# Altium schematic symbol library Main.SchLib: 196 symbols (part 1 of 4)
Pins are listed as number, name and electrical type; pins without a type are passive.

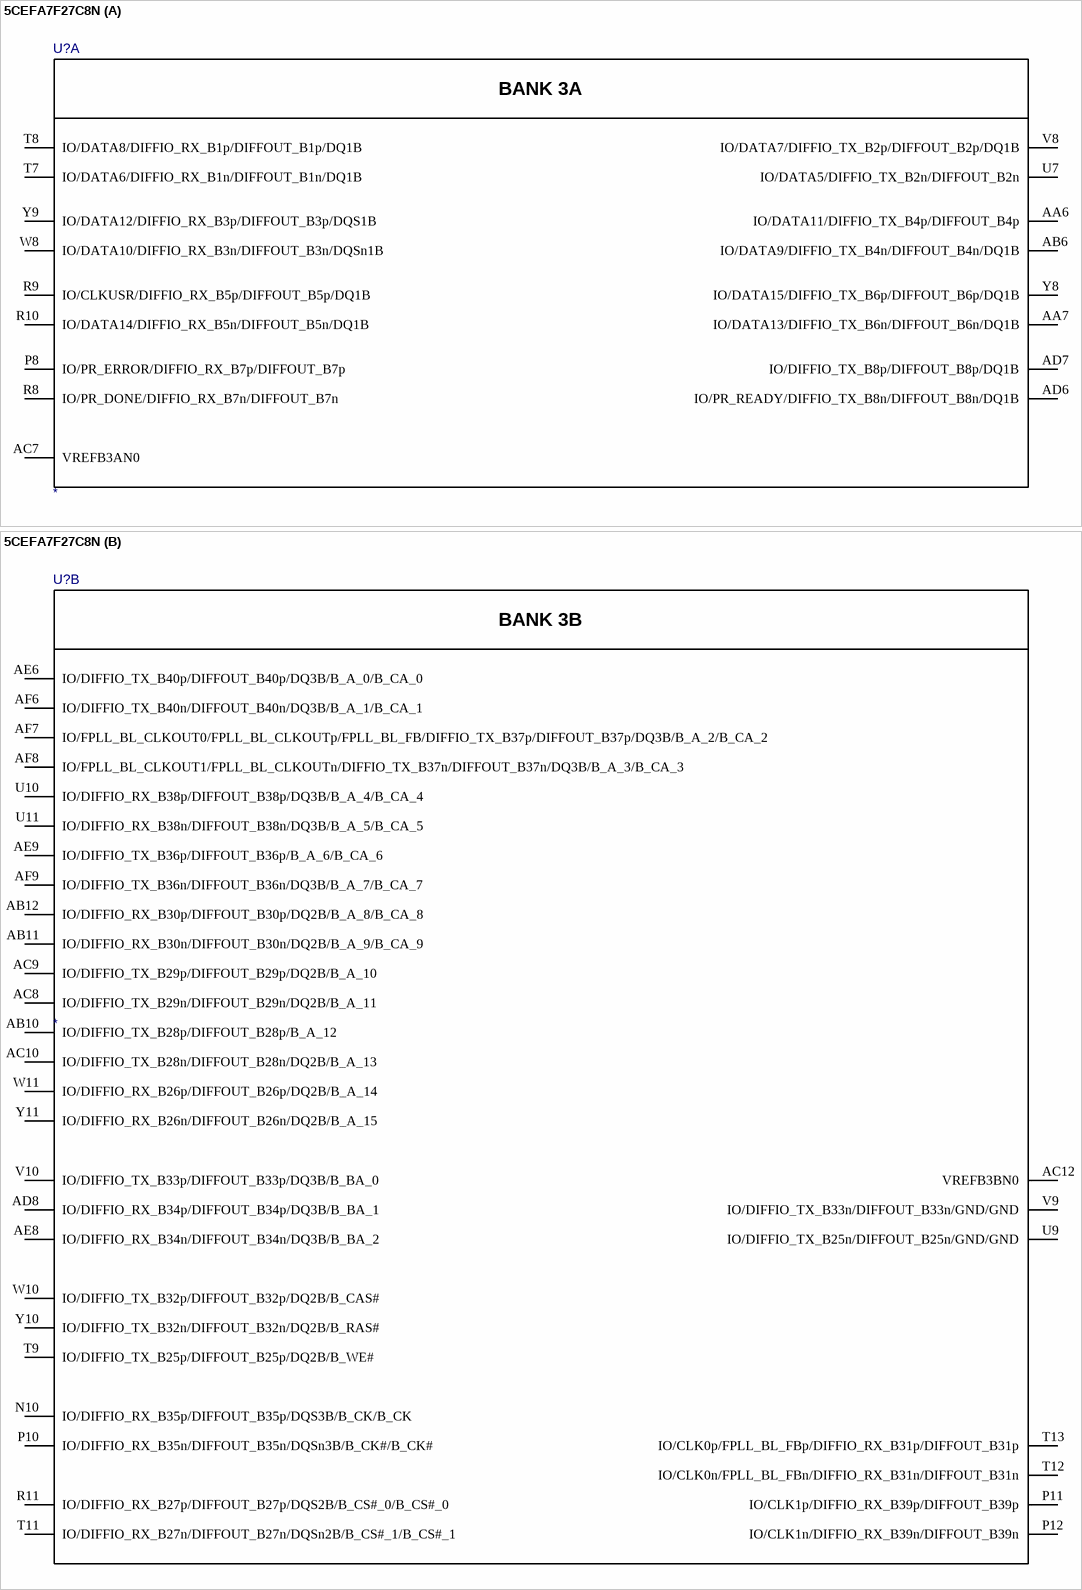
[diagram p0: symbol 5CEFA7F27C8N]

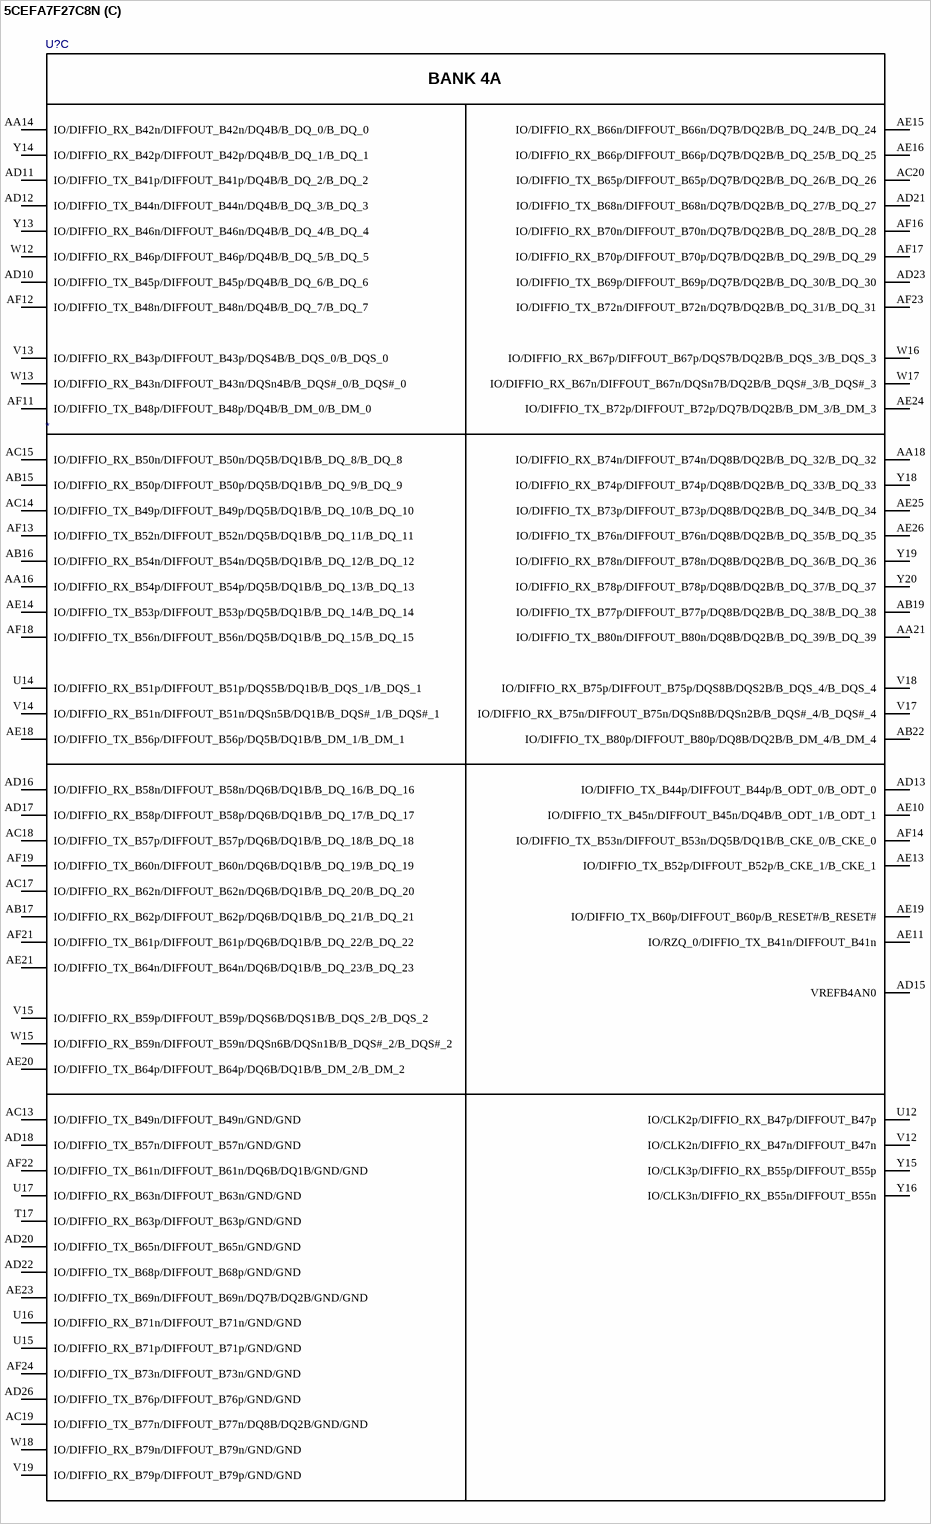
[diagram p1: symbol 5CEFA7F27C8N]

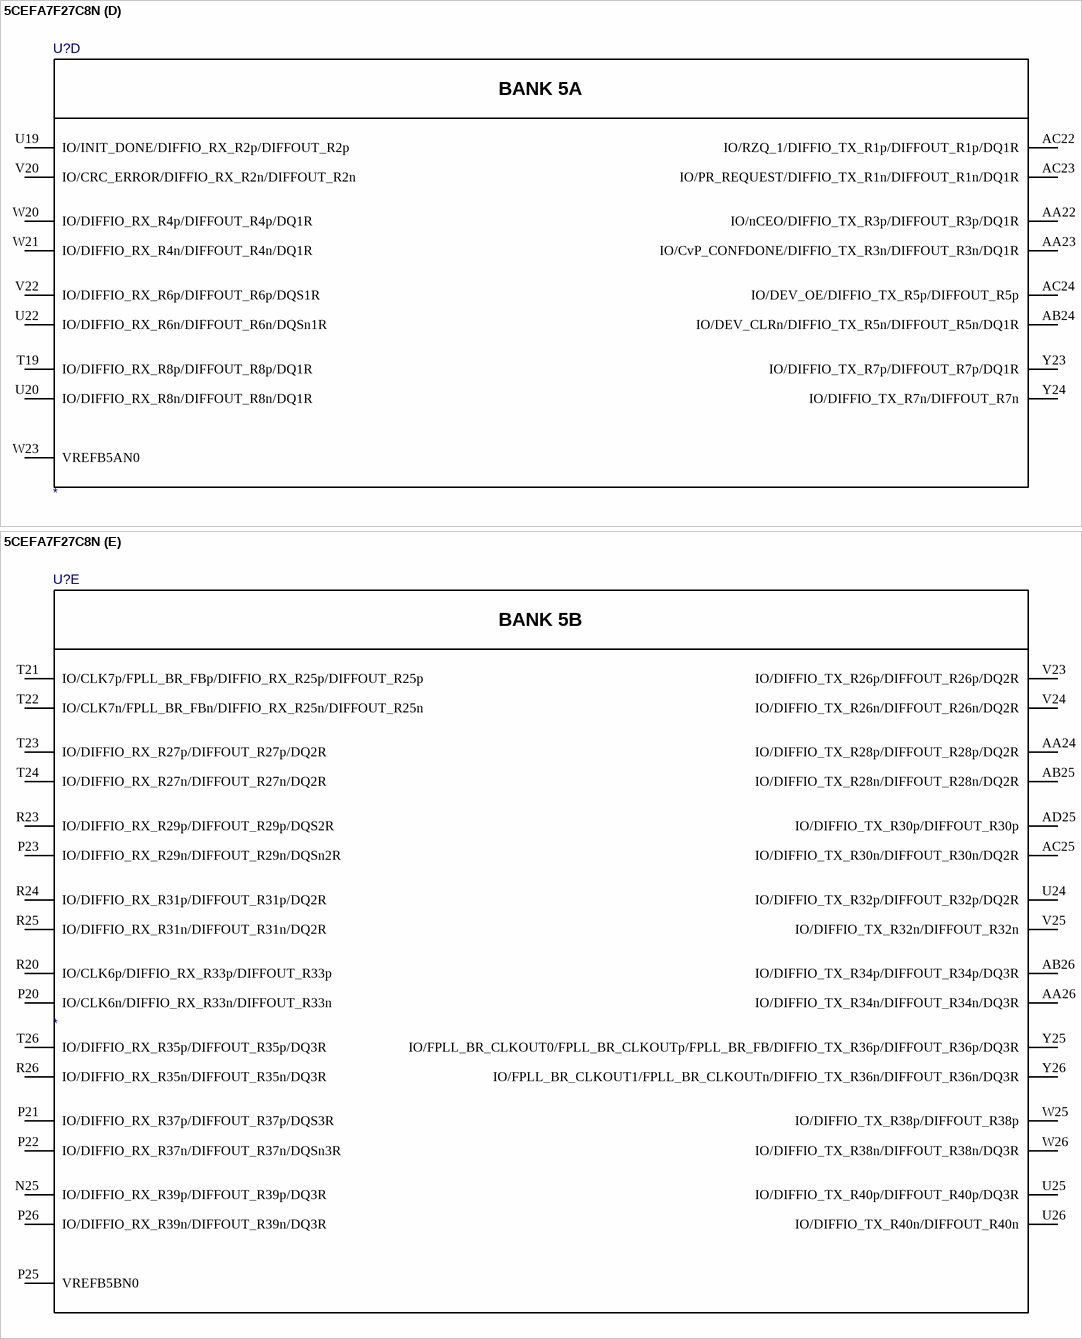
[diagram p2: symbol 5CEFA7F27C8N]

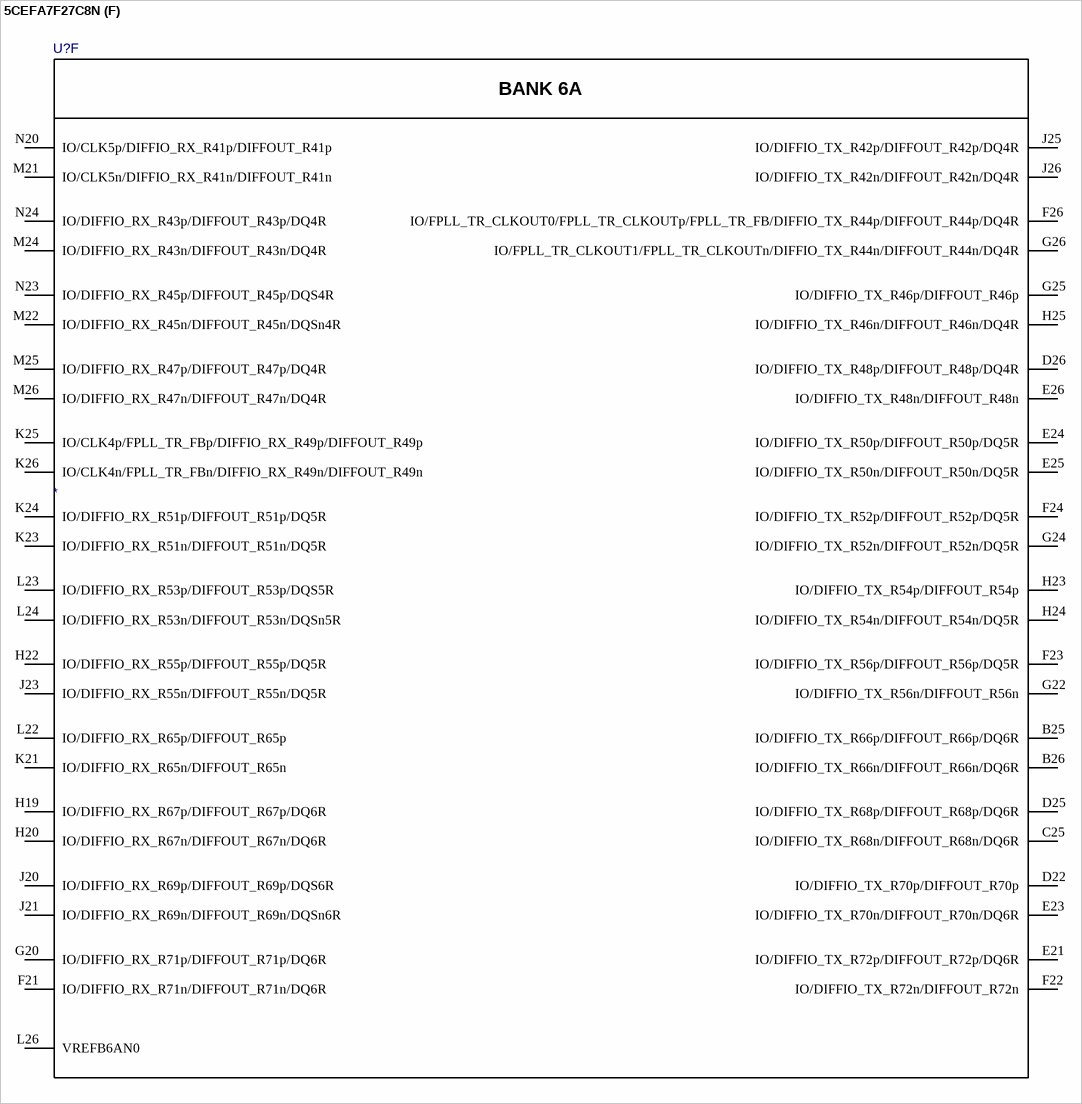
[diagram p3: symbol 5CEFA7F27C8N]

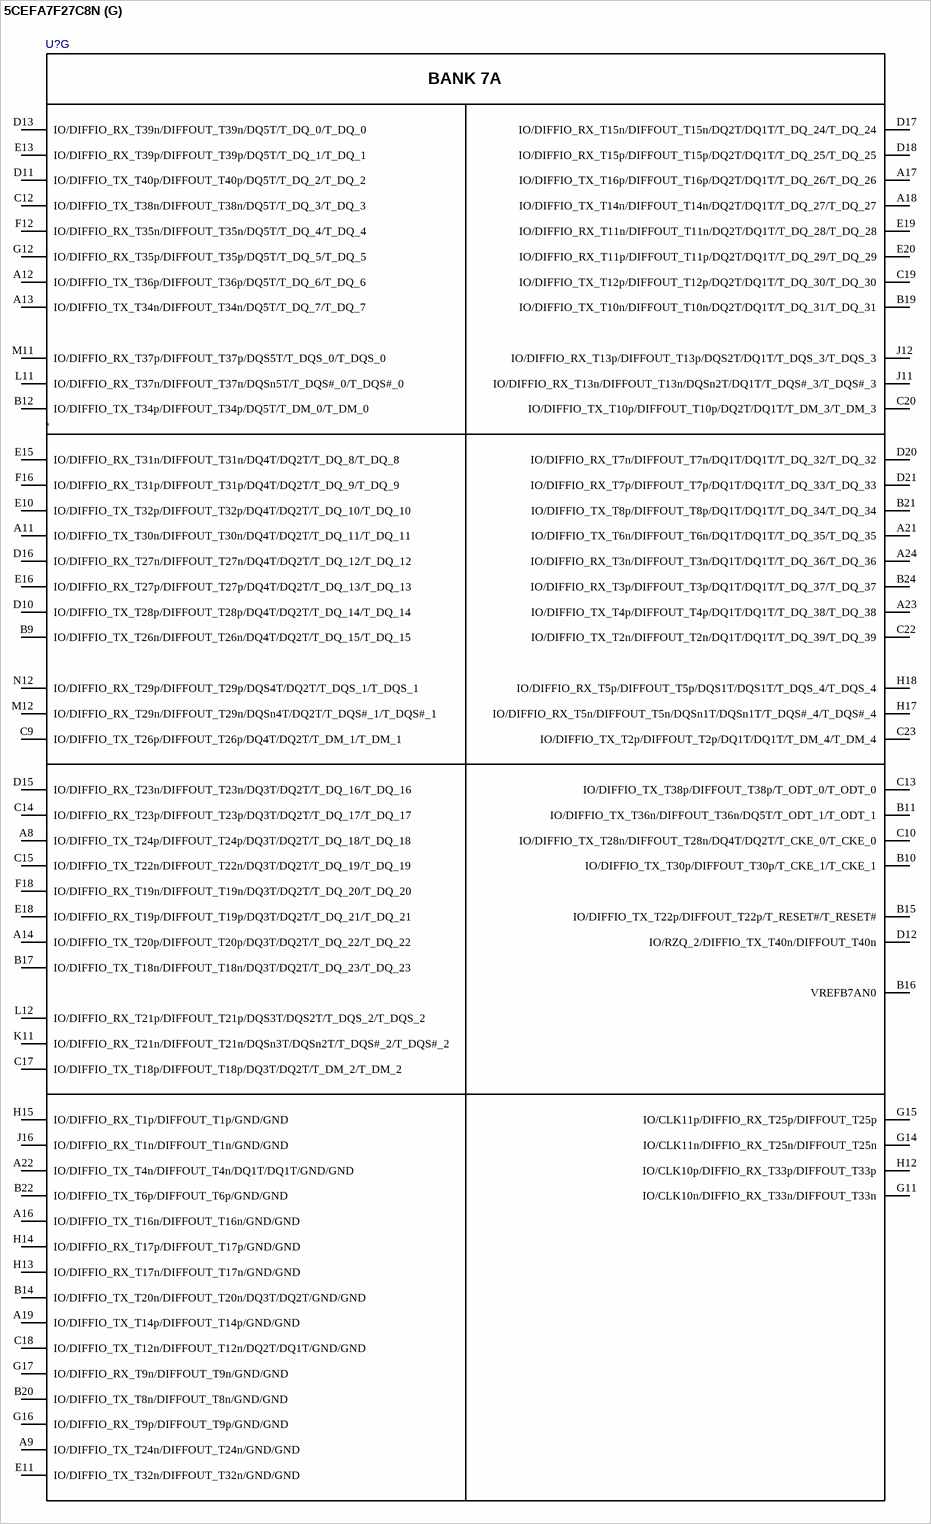
[diagram p4: symbol 5CEFA7F27C8N]

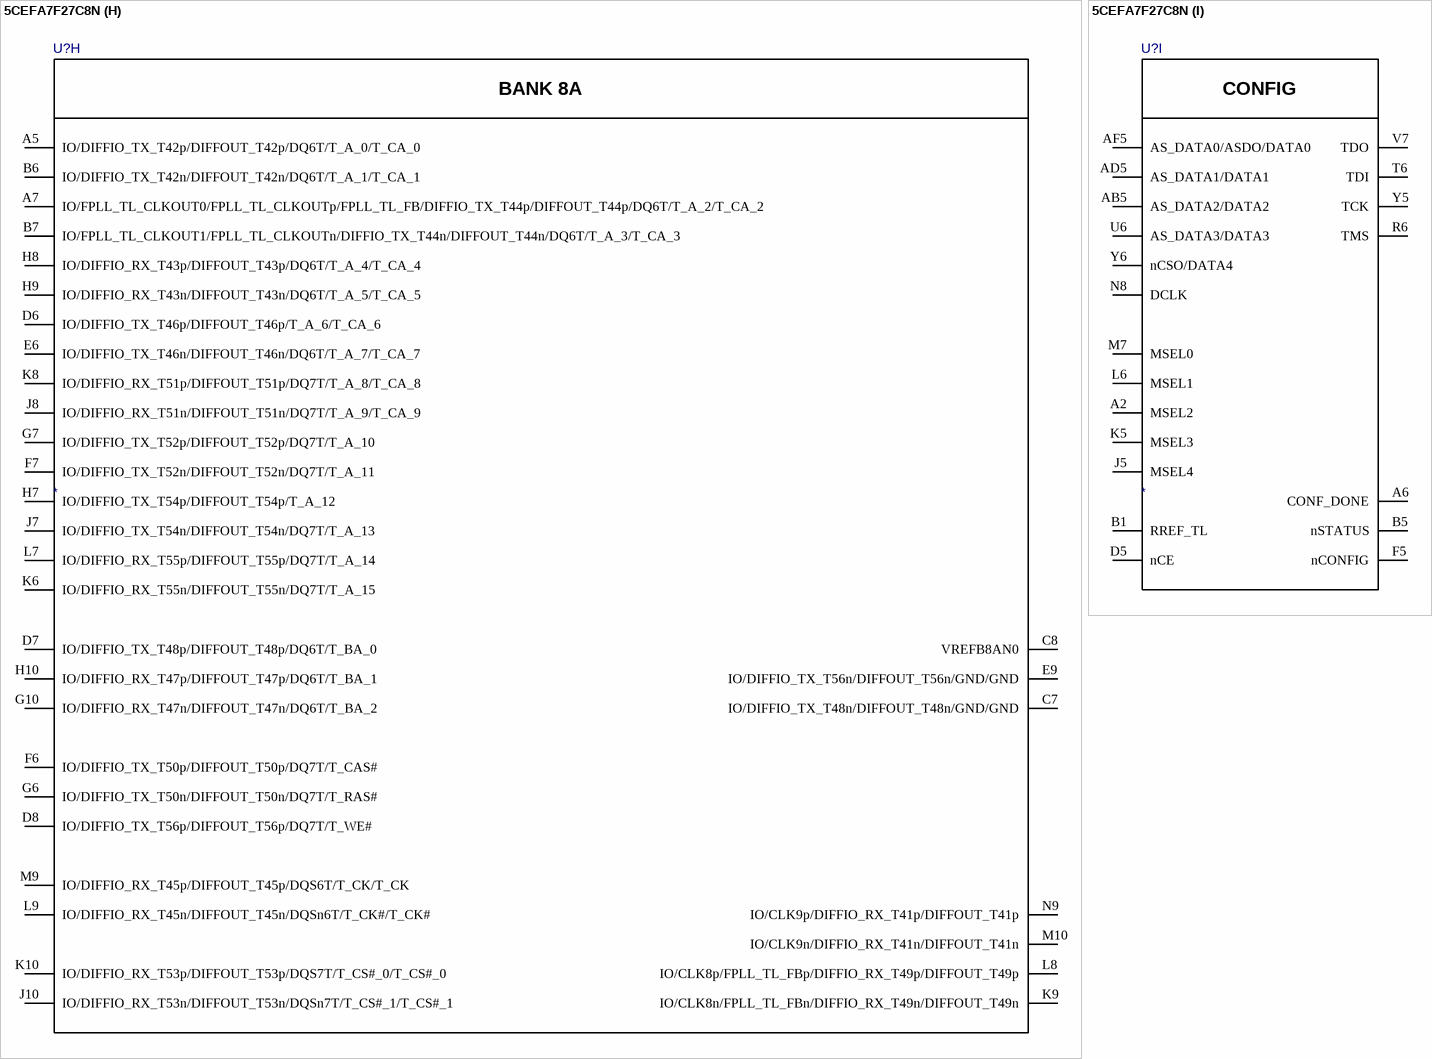
[diagram p5: symbol 5CEFA7F27C8N]

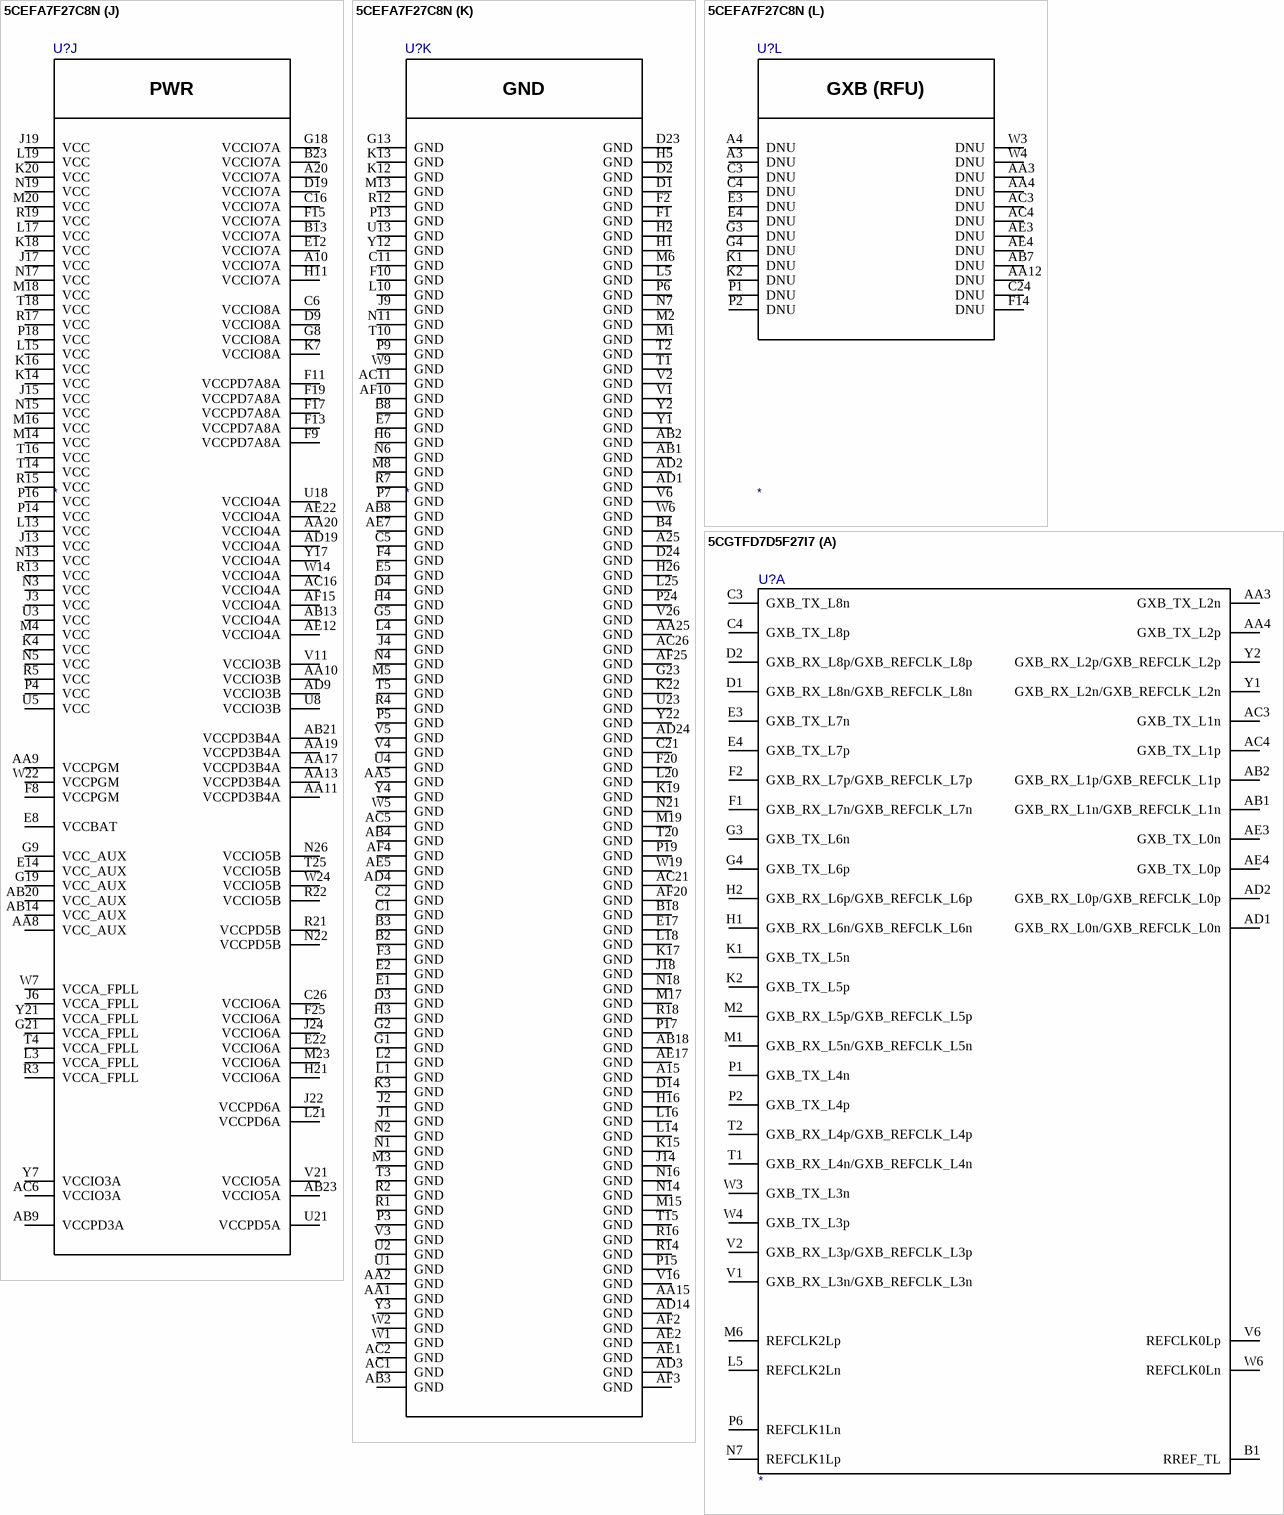
[diagram p6: symbols 5CEFA7F27C8N to 5CGTFD7D5F27I7]

## 5CEFA7F27C8N
designator U?
part A pins: AA6 IO/DATA11/DIFFIO_TX_B4p/DIFFOUT_B4p, AA7 IO/DATA13/DIFFIO_TX_B6n/DIFFOUT_B6n/DQ1B, AB6 IO/DATA9/DIFFIO_TX_B4n/DIFFOUT_B4n/DQ1B, AC7 VREFB3AN0, AD6 IO/PR_READY/DIFFIO_TX_B8n/DIFFOUT_B8n/DQ1B, AD7 IO/DIFFIO_TX_B8p/DIFFOUT_B8p/DQ1B, P8 IO/PR_ERROR/DIFFIO_RX_B7p/DIFFOUT_B7p, R8 IO/PR_DONE/DIFFIO_RX_B7n/DIFFOUT_B7n, R9 IO/CLKUSR/DIFFIO_RX_B5p/DIFFOUT_B5p/DQ1B, R10 IO/DATA14/DIFFIO_RX_B5n/DIFFOUT_B5n/DQ1B, T7 IO/DATA6/DIFFIO_RX_B1n/DIFFOUT_B1n/DQ1B, T8 IO/DATA8/DIFFIO_RX_B1p/DIFFOUT_B1p/DQ1B, U7 IO/DATA5/DIFFIO_TX_B2n/DIFFOUT_B2n, V8 IO/DATA7/DIFFIO_TX_B2p/DIFFOUT_B2p/DQ1B, W8 IO/DATA10/DIFFIO_RX_B3n/DIFFOUT_B3n/DQSn1B, Y8 IO/DATA15/DIFFIO_TX_B6p/DIFFOUT_B6p/DQ1B, Y9 IO/DATA12/DIFFIO_RX_B3p/DIFFOUT_B3p/DQS1B
part B pins: AB10 IO/DIFFIO_TX_B28p/DIFFOUT_B28p/B_A_12, AB11 IO/DIFFIO_RX_B30n/DIFFOUT_B30n/DQ2B/B_A_9/B_CA_9, AB12 IO/DIFFIO_RX_B30p/DIFFOUT_B30p/DQ2B/B_A_8/B_CA_8, AC8 IO/DIFFIO_TX_B29n/DIFFOUT_B29n/DQ2B/B_A_11, AC9 IO/DIFFIO_TX_B29p/DIFFOUT_B29p/DQ2B/B_A_10, AC10 IO/DIFFIO_TX_B28n/DIFFOUT_B28n/DQ2B/B_A_13, AC12 VREFB3BN0, AD8 IO/DIFFIO_RX_B34p/DIFFOUT_B34p/DQ3B/B_BA_1, AE6 IO/DIFFIO_TX_B40p/DIFFOUT_B40p/DQ3B/B_A_0/B_CA_0, AE8 IO/DIFFIO_RX_B34n/DIFFOUT_B34n/DQ3B/B_BA_2, AE9 IO/DIFFIO_TX_B36p/DIFFOUT_B36p/B_A_6/B_CA_6, AF6 IO/DIFFIO_TX_B40n/DIFFOUT_B40n/DQ3B/B_A_1/B_CA_1, AF7 IO/FPLL_BL_CLKOUT0/FPLL_BL_CLKOUTp/FPLL_BL_FB/DIFFIO_TX_B37p/DIFFOUT_B37p/DQ3B/B_A_2/B_CA_2, AF8 IO/FPLL_BL_CLKOUT1/FPLL_BL_CLKOUTn/DIFFIO_TX_B37n/DIFFOUT_B37n/DQ3B/B_A_3/B_CA_3, AF9 IO/DIFFIO_TX_B36n/DIFFOUT_B36n/DQ3B/B_A_7/B_CA_7, N10 IO/DIFFIO_RX_B35p/DIFFOUT_B35p/DQS3B/B_CK/B_CK, P10 IO/DIFFIO_RX_B35n/DIFFOUT_B35n/DQSn3B/B_CK#/B_CK#, P11 IO/CLK1p/DIFFIO_RX_B39p/DIFFOUT_B39p, P12 IO/CLK1n/DIFFIO_RX_B39n/DIFFOUT_B39n, R11 IO/DIFFIO_RX_B27p/DIFFOUT_B27p/DQS2B/B_CS#_0/B_CS#_0, T9 IO/DIFFIO_TX_B25p/DIFFOUT_B25p/DQ2B/B_WE#, T11 IO/DIFFIO_RX_B27n/DIFFOUT_B27n/DQSn2B/B_CS#_1/B_CS#_1, T12 IO/CLK0n/FPLL_BL_FBn/DIFFIO_RX_B31n/DIFFOUT_B31n, T13 IO/CLK0p/FPLL_BL_FBp/DIFFIO_RX_B31p/DIFFOUT_B31p, U9 IO/DIFFIO_TX_B25n/DIFFOUT_B25n/GND/GND, U10 IO/DIFFIO_RX_B38p/DIFFOUT_B38p/DQ3B/B_A_4/B_CA_4, U11 IO/DIFFIO_RX_B38n/DIFFOUT_B38n/DQ3B/B_A_5/B_CA_5, V9 IO/DIFFIO_TX_B33n/DIFFOUT_B33n/GND/GND, V10 IO/DIFFIO_TX_B33p/DIFFOUT_B33p/DQ3B/B_BA_0, W10 IO/DIFFIO_TX_B32p/DIFFOUT_B32p/DQ2B/B_CAS#, W11 IO/DIFFIO_RX_B26p/DIFFOUT_B26p/DQ2B/B_A_14, Y10 IO/DIFFIO_TX_B32n/DIFFOUT_B32n/DQ2B/B_RAS#, Y11 IO/DIFFIO_RX_B26n/DIFFOUT_B26n/DQ2B/B_A_15
part C pins: AA14 IO/DIFFIO_RX_B42n/DIFFOUT_B42n/DQ4B/B_DQ_0/B_DQ_0, AA16 IO/DIFFIO_RX_B54p/DIFFOUT_B54p/DQ5B/DQ1B/B_DQ_13/B_DQ_13, AA18 IO/DIFFIO_RX_B74n/DIFFOUT_B74n/DQ8B/DQ2B/B_DQ_32/B_DQ_32, AA21 IO/DIFFIO_TX_B80n/DIFFOUT_B80n/DQ8B/DQ2B/B_DQ_39/B_DQ_39, AB15 IO/DIFFIO_RX_B50p/DIFFOUT_B50p/DQ5B/DQ1B/B_DQ_9/B_DQ_9, AB16 IO/DIFFIO_RX_B54n/DIFFOUT_B54n/DQ5B/DQ1B/B_DQ_12/B_DQ_12, AB17 IO/DIFFIO_RX_B62p/DIFFOUT_B62p/DQ6B/DQ1B/B_DQ_21/B_DQ_21, AB19 IO/DIFFIO_TX_B77p/DIFFOUT_B77p/DQ8B/DQ2B/B_DQ_38/B_DQ_38, AB22 IO/DIFFIO_TX_B80p/DIFFOUT_B80p/DQ8B/DQ2B/B_DM_4/B_DM_4, AC13 IO/DIFFIO_TX_B49n/DIFFOUT_B49n/GND/GND, AC14 IO/DIFFIO_TX_B49p/DIFFOUT_B49p/DQ5B/DQ1B/B_DQ_10/B_DQ_10, AC15 IO/DIFFIO_RX_B50n/DIFFOUT_B50n/DQ5B/DQ1B/B_DQ_8/B_DQ_8, AC17 IO/DIFFIO_RX_B62n/DIFFOUT_B62n/DQ6B/DQ1B/B_DQ_20/B_DQ_20, AC18 IO/DIFFIO_TX_B57p/DIFFOUT_B57p/DQ6B/DQ1B/B_DQ_18/B_DQ_18, AC19 IO/DIFFIO_TX_B77n/DIFFOUT_B77n/DQ8B/DQ2B/GND/GND, AC20 IO/DIFFIO_TX_B65p/DIFFOUT_B65p/DQ7B/DQ2B/B_DQ_26/B_DQ_26, AD10 IO/DIFFIO_TX_B45p/DIFFOUT_B45p/DQ4B/B_DQ_6/B_DQ_6, AD11 IO/DIFFIO_TX_B41p/DIFFOUT_B41p/DQ4B/B_DQ_2/B_DQ_2, AD12 IO/DIFFIO_TX_B44n/DIFFOUT_B44n/DQ4B/B_DQ_3/B_DQ_3, AD13 IO/DIFFIO_TX_B44p/DIFFOUT_B44p/B_ODT_0/B_ODT_0, AD15 VREFB4AN0, AD16 IO/DIFFIO_RX_B58n/DIFFOUT_B58n/DQ6B/DQ1B/B_DQ_16/B_DQ_16, AD17 IO/DIFFIO_RX_B58p/DIFFOUT_B58p/DQ6B/DQ1B/B_DQ_17/B_DQ_17, AD18 IO/DIFFIO_TX_B57n/DIFFOUT_B57n/GND/GND, AD20 IO/DIFFIO_TX_B65n/DIFFOUT_B65n/GND/GND, AD21 IO/DIFFIO_TX_B68n/DIFFOUT_B68n/DQ7B/DQ2B/B_DQ_27/B_DQ_27, AD22 IO/DIFFIO_TX_B68p/DIFFOUT_B68p/GND/GND, AD23 IO/DIFFIO_TX_B69p/DIFFOUT_B69p/DQ7B/DQ2B/B_DQ_30/B_DQ_30, AD26 IO/DIFFIO_TX_B76p/DIFFOUT_B76p/GND/GND, AE10 IO/DIFFIO_TX_B45n/DIFFOUT_B45n/DQ4B/B_ODT_1/B_ODT_1, AE11 IO/RZQ_0/DIFFIO_TX_B41n/DIFFOUT_B41n, AE13 IO/DIFFIO_TX_B52p/DIFFOUT_B52p/B_CKE_1/B_CKE_1, AE14 IO/DIFFIO_TX_B53p/DIFFOUT_B53p/DQ5B/DQ1B/B_DQ_14/B_DQ_14, AE15 IO/DIFFIO_RX_B66n/DIFFOUT_B66n/DQ7B/DQ2B/B_DQ_24/B_DQ_24, AE16 IO/DIFFIO_RX_B66p/DIFFOUT_B66p/DQ7B/DQ2B/B_DQ_25/B_DQ_25, AE18 IO/DIFFIO_TX_B56p/DIFFOUT_B56p/DQ5B/DQ1B/B_DM_1/B_DM_1, AE19 IO/DIFFIO_TX_B60p/DIFFOUT_B60p/B_RESET#/B_RESET#, AE20 IO/DIFFIO_TX_B64p/DIFFOUT_B64p/DQ6B/DQ1B/B_DM_2/B_DM_2, AE21 IO/DIFFIO_TX_B64n/DIFFOUT_B64n/DQ6B/DQ1B/B_DQ_23/B_DQ_23, AE23 IO/DIFFIO_TX_B69n/DIFFOUT_B69n/DQ7B/DQ2B/GND/GND, AE24 IO/DIFFIO_TX_B72p/DIFFOUT_B72p/DQ7B/DQ2B/B_DM_3/B_DM_3, AE25 IO/DIFFIO_TX_B73p/DIFFOUT_B73p/DQ8B/DQ2B/B_DQ_34/B_DQ_34, AE26 IO/DIFFIO_TX_B76n/DIFFOUT_B76n/DQ8B/DQ2B/B_DQ_35/B_DQ_35, AF11 IO/DIFFIO_TX_B48p/DIFFOUT_B48p/DQ4B/B_DM_0/B_DM_0, AF12 IO/DIFFIO_TX_B48n/DIFFOUT_B48n/DQ4B/B_DQ_7/B_DQ_7, AF13 IO/DIFFIO_TX_B52n/DIFFOUT_B52n/DQ5B/DQ1B/B_DQ_11/B_DQ_11, AF14 IO/DIFFIO_TX_B53n/DIFFOUT_B53n/DQ5B/DQ1B/B_CKE_0/B_CKE_0, AF16 IO/DIFFIO_RX_B70n/DIFFOUT_B70n/DQ7B/DQ2B/B_DQ_28/B_DQ_28, AF17 IO/DIFFIO_RX_B70p/DIFFOUT_B70p/DQ7B/DQ2B/B_DQ_29/B_DQ_29, AF18 IO/DIFFIO_TX_B56n/DIFFOUT_B56n/DQ5B/DQ1B/B_DQ_15/B_DQ_15, AF19 IO/DIFFIO_TX_B60n/DIFFOUT_B60n/DQ6B/DQ1B/B_DQ_19/B_DQ_19, AF21 IO/DIFFIO_TX_B61p/DIFFOUT_B61p/DQ6B/DQ1B/B_DQ_22/B_DQ_22, AF22 IO/DIFFIO_TX_B61n/DIFFOUT_B61n/DQ6B/DQ1B/GND/GND, AF23 IO/DIFFIO_TX_B72n/DIFFOUT_B72n/DQ7B/DQ2B/B_DQ_31/B_DQ_31, AF24 IO/DIFFIO_TX_B73n/DIFFOUT_B73n/GND/GND, T17 IO/DIFFIO_RX_B63p/DIFFOUT_B63p/GND/GND, U12 IO/CLK2p/DIFFIO_RX_B47p/DIFFOUT_B47p, U14 IO/DIFFIO_RX_B51p/DIFFOUT_B51p/DQS5B/DQ1B/B_DQS_1/B_DQS_1, U15 IO/DIFFIO_RX_B71p/DIFFOUT_B71p/GND/GND, U16 IO/DIFFIO_RX_B71n/DIFFOUT_B71n/GND/GND, U17 IO/DIFFIO_RX_B63n/DIFFOUT_B63n/GND/GND, V12 IO/CLK2n/DIFFIO_RX_B47n/DIFFOUT_B47n, V13 IO/DIFFIO_RX_B43p/DIFFOUT_B43p/DQS4B/B_DQS_0/B_DQS_0, V14 IO/DIFFIO_RX_B51n/DIFFOUT_B51n/DQSn5B/DQ1B/B_DQS#_1/B_DQS#_1, V15 IO/DIFFIO_RX_B59p/DIFFOUT_B59p/DQS6B/DQS1B/B_DQS_2/B_DQS_2, V17 IO/DIFFIO_RX_B75n/DIFFOUT_B75n/DQSn8B/DQSn2B/B_DQS#_4/B_DQS#_4, V18 IO/DIFFIO_RX_B75p/DIFFOUT_B75p/DQS8B/DQS2B/B_DQS_4/B_DQS_4, V19 IO/DIFFIO_RX_B79p/DIFFOUT_B79p/GND/GND, W12 IO/DIFFIO_RX_B46p/DIFFOUT_B46p/DQ4B/B_DQ_5/B_DQ_5, W13 IO/DIFFIO_RX_B43n/DIFFOUT_B43n/DQSn4B/B_DQS#_0/B_DQS#_0, W15 IO/DIFFIO_RX_B59n/DIFFOUT_B59n/DQSn6B/DQSn1B/B_DQS#_2/B_DQS#_2, W16 IO/DIFFIO_RX_B67p/DIFFOUT_B67p/DQS7B/DQ2B/B_DQS_3/B_DQS_3, W17 IO/DIFFIO_RX_B67n/DIFFOUT_B67n/DQSn7B/DQ2B/B_DQS#_3/B_DQS#_3, W18 IO/DIFFIO_RX_B79n/DIFFOUT_B79n/GND/GND, Y13 IO/DIFFIO_RX_B46n/DIFFOUT_B46n/DQ4B/B_DQ_4/B_DQ_4, Y14 IO/DIFFIO_RX_B42p/DIFFOUT_B42p/DQ4B/B_DQ_1/B_DQ_1, Y15 IO/CLK3p/DIFFIO_RX_B55p/DIFFOUT_B55p, Y16 IO/CLK3n/DIFFIO_RX_B55n/DIFFOUT_B55n, Y18 IO/DIFFIO_RX_B74p/DIFFOUT_B74p/DQ8B/DQ2B/B_DQ_33/B_DQ_33, Y19 IO/DIFFIO_RX_B78n/DIFFOUT_B78n/DQ8B/DQ2B/B_DQ_36/B_DQ_36, Y20 IO/DIFFIO_RX_B78p/DIFFOUT_B78p/DQ8B/DQ2B/B_DQ_37/B_DQ_37
part D pins: AA22 IO/nCEO/DIFFIO_TX_R3p/DIFFOUT_R3p/DQ1R, AA23 IO/CvP_CONFDONE/DIFFIO_TX_R3n/DIFFOUT_R3n/DQ1R, AB24 IO/DEV_CLRn/DIFFIO_TX_R5n/DIFFOUT_R5n/DQ1R, AC22 IO/RZQ_1/DIFFIO_TX_R1p/DIFFOUT_R1p/DQ1R, AC23 IO/PR_REQUEST/DIFFIO_TX_R1n/DIFFOUT_R1n/DQ1R, AC24 IO/DEV_OE/DIFFIO_TX_R5p/DIFFOUT_R5p, T19 IO/DIFFIO_RX_R8p/DIFFOUT_R8p/DQ1R, U19 IO/INIT_DONE/DIFFIO_RX_R2p/DIFFOUT_R2p, U20 IO/DIFFIO_RX_R8n/DIFFOUT_R8n/DQ1R, U22 IO/DIFFIO_RX_R6n/DIFFOUT_R6n/DQSn1R, V20 IO/CRC_ERROR/DIFFIO_RX_R2n/DIFFOUT_R2n, V22 IO/DIFFIO_RX_R6p/DIFFOUT_R6p/DQS1R, W20 IO/DIFFIO_RX_R4p/DIFFOUT_R4p/DQ1R, W21 IO/DIFFIO_RX_R4n/DIFFOUT_R4n/DQ1R, W23 VREFB5AN0, Y23 IO/DIFFIO_TX_R7p/DIFFOUT_R7p/DQ1R, Y24 IO/DIFFIO_TX_R7n/DIFFOUT_R7n
part E pins: AA24 IO/DIFFIO_TX_R28p/DIFFOUT_R28p/DQ2R, AA26 IO/DIFFIO_TX_R34n/DIFFOUT_R34n/DQ3R, AB25 IO/DIFFIO_TX_R28n/DIFFOUT_R28n/DQ2R, AB26 IO/DIFFIO_TX_R34p/DIFFOUT_R34p/DQ3R, AC25 IO/DIFFIO_TX_R30n/DIFFOUT_R30n/DQ2R, AD25 IO/DIFFIO_TX_R30p/DIFFOUT_R30p, N25 IO/DIFFIO_RX_R39p/DIFFOUT_R39p/DQ3R, P20 IO/CLK6n/DIFFIO_RX_R33n/DIFFOUT_R33n, P21 IO/DIFFIO_RX_R37p/DIFFOUT_R37p/DQS3R, P22 IO/DIFFIO_RX_R37n/DIFFOUT_R37n/DQSn3R, P23 IO/DIFFIO_RX_R29n/DIFFOUT_R29n/DQSn2R, P25 VREFB5BN0, P26 IO/DIFFIO_RX_R39n/DIFFOUT_R39n/DQ3R, R20 IO/CLK6p/DIFFIO_RX_R33p/DIFFOUT_R33p, R23 IO/DIFFIO_RX_R29p/DIFFOUT_R29p/DQS2R, R24 IO/DIFFIO_RX_R31p/DIFFOUT_R31p/DQ2R, R25 IO/DIFFIO_RX_R31n/DIFFOUT_R31n/DQ2R, R26 IO/DIFFIO_RX_R35n/DIFFOUT_R35n/DQ3R, T21 IO/CLK7p/FPLL_BR_FBp/DIFFIO_RX_R25p/DIFFOUT_R25p, T22 IO/CLK7n/FPLL_BR_FBn/DIFFIO_RX_R25n/DIFFOUT_R25n, T23 IO/DIFFIO_RX_R27p/DIFFOUT_R27p/DQ2R, T24 IO/DIFFIO_RX_R27n/DIFFOUT_R27n/DQ2R, T26 IO/DIFFIO_RX_R35p/DIFFOUT_R35p/DQ3R, U24 IO/DIFFIO_TX_R32p/DIFFOUT_R32p/DQ2R, U25 IO/DIFFIO_TX_R40p/DIFFOUT_R40p/DQ3R, U26 IO/DIFFIO_TX_R40n/DIFFOUT_R40n, V23 IO/DIFFIO_TX_R26p/DIFFOUT_R26p/DQ2R, V24 IO/DIFFIO_TX_R26n/DIFFOUT_R26n/DQ2R, V25 IO/DIFFIO_TX_R32n/DIFFOUT_R32n, W25 IO/DIFFIO_TX_R38p/DIFFOUT_R38p, W26 IO/DIFFIO_TX_R38n/DIFFOUT_R38n/DQ3R, Y25 IO/FPLL_BR_CLKOUT0/FPLL_BR_CLKOUTp/FPLL_BR_FB/DIFFIO_TX_R36p/DIFFOUT_R36p/DQ3R, Y26 IO/FPLL_BR_CLKOUT1/FPLL_BR_CLKOUTn/DIFFIO_TX_R36n/DIFFOUT_R36n/DQ3R
part F pins: B25 IO/DIFFIO_TX_R66p/DIFFOUT_R66p/DQ6R, B26 IO/DIFFIO_TX_R66n/DIFFOUT_R66n/DQ6R, C25 IO/DIFFIO_TX_R68n/DIFFOUT_R68n/DQ6R, D22 IO/DIFFIO_TX_R70p/DIFFOUT_R70p, D25 IO/DIFFIO_TX_R68p/DIFFOUT_R68p/DQ6R, D26 IO/DIFFIO_TX_R48p/DIFFOUT_R48p/DQ4R, E21 IO/DIFFIO_TX_R72p/DIFFOUT_R72p/DQ6R, E23 IO/DIFFIO_TX_R70n/DIFFOUT_R70n/DQ6R, E24 IO/DIFFIO_TX_R50p/DIFFOUT_R50p/DQ5R, E25 IO/DIFFIO_TX_R50n/DIFFOUT_R50n/DQ5R, E26 IO/DIFFIO_TX_R48n/DIFFOUT_R48n, F21 IO/DIFFIO_RX_R71n/DIFFOUT_R71n/DQ6R, F22 IO/DIFFIO_TX_R72n/DIFFOUT_R72n, F23 IO/DIFFIO_TX_R56p/DIFFOUT_R56p/DQ5R, F24 IO/DIFFIO_TX_R52p/DIFFOUT_R52p/DQ5R, F26 IO/FPLL_TR_CLKOUT0/FPLL_TR_CLKOUTp/FPLL_TR_FB/DIFFIO_TX_R44p/DIFFOUT_R44p/DQ4R, G20 IO/DIFFIO_RX_R71p/DIFFOUT_R71p/DQ6R, G22 IO/DIFFIO_TX_R56n/DIFFOUT_R56n, G24 IO/DIFFIO_TX_R52n/DIFFOUT_R52n/DQ5R, G25 IO/DIFFIO_TX_R46p/DIFFOUT_R46p, G26 IO/FPLL_TR_CLKOUT1/FPLL_TR_CLKOUTn/DIFFIO_TX_R44n/DIFFOUT_R44n/DQ4R, H19 IO/DIFFIO_RX_R67p/DIFFOUT_R67p/DQ6R, H20 IO/DIFFIO_RX_R67n/DIFFOUT_R67n/DQ6R, H22 IO/DIFFIO_RX_R55p/DIFFOUT_R55p/DQ5R, H23 IO/DIFFIO_TX_R54p/DIFFOUT_R54p, H24 IO/DIFFIO_TX_R54n/DIFFOUT_R54n/DQ5R, H25 IO/DIFFIO_TX_R46n/DIFFOUT_R46n/DQ4R, J20 IO/DIFFIO_RX_R69p/DIFFOUT_R69p/DQS6R, J21 IO/DIFFIO_RX_R69n/DIFFOUT_R69n/DQSn6R, J23 IO/DIFFIO_RX_R55n/DIFFOUT_R55n/DQ5R, J25 IO/DIFFIO_TX_R42p/DIFFOUT_R42p/DQ4R, J26 IO/DIFFIO_TX_R42n/DIFFOUT_R42n/DQ4R, K21 IO/DIFFIO_RX_R65n/DIFFOUT_R65n, K23 IO/DIFFIO_RX_R51n/DIFFOUT_R51n/DQ5R, K24 IO/DIFFIO_RX_R51p/DIFFOUT_R51p/DQ5R, K25 IO/CLK4p/FPLL_TR_FBp/DIFFIO_RX_R49p/DIFFOUT_R49p, K26 IO/CLK4n/FPLL_TR_FBn/DIFFIO_RX_R49n/DIFFOUT_R49n, L22 IO/DIFFIO_RX_R65p/DIFFOUT_R65p, L23 IO/DIFFIO_RX_R53p/DIFFOUT_R53p/DQS5R, L24 IO/DIFFIO_RX_R53n/DIFFOUT_R53n/DQSn5R, L26 VREFB6AN0, M21 IO/CLK5n/DIFFIO_RX_R41n/DIFFOUT_R41n, M22 IO/DIFFIO_RX_R45n/DIFFOUT_R45n/DQSn4R, M24 IO/DIFFIO_RX_R43n/DIFFOUT_R43n/DQ4R, M25 IO/DIFFIO_RX_R47p/DIFFOUT_R47p/DQ4R, M26 IO/DIFFIO_RX_R47n/DIFFOUT_R47n/DQ4R, N20 IO/CLK5p/DIFFIO_RX_R41p/DIFFOUT_R41p, N23 IO/DIFFIO_RX_R45p/DIFFOUT_R45p/DQS4R, N24 IO/DIFFIO_RX_R43p/DIFFOUT_R43p/DQ4R
part G pins: A8 IO/DIFFIO_TX_T24p/DIFFOUT_T24p/DQ3T/DQ2T/T_DQ_18/T_DQ_18, A9 IO/DIFFIO_TX_T24n/DIFFOUT_T24n/GND/GND, A11 IO/DIFFIO_TX_T30n/DIFFOUT_T30n/DQ4T/DQ2T/T_DQ_11/T_DQ_11, A12 IO/DIFFIO_TX_T36p/DIFFOUT_T36p/DQ5T/T_DQ_6/T_DQ_6, A13 IO/DIFFIO_TX_T34n/DIFFOUT_T34n/DQ5T/T_DQ_7/T_DQ_7, A14 IO/DIFFIO_TX_T20p/DIFFOUT_T20p/DQ3T/DQ2T/T_DQ_22/T_DQ_22, A16 IO/DIFFIO_TX_T16n/DIFFOUT_T16n/GND/GND, A17 IO/DIFFIO_TX_T16p/DIFFOUT_T16p/DQ2T/DQ1T/T_DQ_26/T_DQ_26, A18 IO/DIFFIO_TX_T14n/DIFFOUT_T14n/DQ2T/DQ1T/T_DQ_27/T_DQ_27, A19 IO/DIFFIO_TX_T14p/DIFFOUT_T14p/GND/GND, A21 IO/DIFFIO_TX_T6n/DIFFOUT_T6n/DQ1T/DQ1T/T_DQ_35/T_DQ_35, A22 IO/DIFFIO_TX_T4n/DIFFOUT_T4n/DQ1T/DQ1T/GND/GND, A23 IO/DIFFIO_TX_T4p/DIFFOUT_T4p/DQ1T/DQ1T/T_DQ_38/T_DQ_38, A24 IO/DIFFIO_RX_T3n/DIFFOUT_T3n/DQ1T/DQ1T/T_DQ_36/T_DQ_36, B9 IO/DIFFIO_TX_T26n/DIFFOUT_T26n/DQ4T/DQ2T/T_DQ_15/T_DQ_15, B10 IO/DIFFIO_TX_T30p/DIFFOUT_T30p/T_CKE_1/T_CKE_1, B11 IO/DIFFIO_TX_T36n/DIFFOUT_T36n/DQ5T/T_ODT_1/T_ODT_1, B12 IO/DIFFIO_TX_T34p/DIFFOUT_T34p/DQ5T/T_DM_0/T_DM_0, B14 IO/DIFFIO_TX_T20n/DIFFOUT_T20n/DQ3T/DQ2T/GND/GND, B15 IO/DIFFIO_TX_T22p/DIFFOUT_T22p/T_RESET#/T_RESET#, B16 VREFB7AN0, B17 IO/DIFFIO_TX_T18n/DIFFOUT_T18n/DQ3T/DQ2T/T_DQ_23/T_DQ_23, B19 IO/DIFFIO_TX_T10n/DIFFOUT_T10n/DQ2T/DQ1T/T_DQ_31/T_DQ_31, B20 IO/DIFFIO_TX_T8n/DIFFOUT_T8n/GND/GND, B21 IO/DIFFIO_TX_T8p/DIFFOUT_T8p/DQ1T/DQ1T/T_DQ_34/T_DQ_34, B22 IO/DIFFIO_TX_T6p/DIFFOUT_T6p/GND/GND, B24 IO/DIFFIO_RX_T3p/DIFFOUT_T3p/DQ1T/DQ1T/T_DQ_37/T_DQ_37, C9 IO/DIFFIO_TX_T26p/DIFFOUT_T26p/DQ4T/DQ2T/T_DM_1/T_DM_1, C10 IO/DIFFIO_TX_T28n/DIFFOUT_T28n/DQ4T/DQ2T/T_CKE_0/T_CKE_0, C12 IO/DIFFIO_TX_T38n/DIFFOUT_T38n/DQ5T/T_DQ_3/T_DQ_3, C13 IO/DIFFIO_TX_T38p/DIFFOUT_T38p/T_ODT_0/T_ODT_0, C14 IO/DIFFIO_RX_T23p/DIFFOUT_T23p/DQ3T/DQ2T/T_DQ_17/T_DQ_17, C15 IO/DIFFIO_TX_T22n/DIFFOUT_T22n/DQ3T/DQ2T/T_DQ_19/T_DQ_19, C17 IO/DIFFIO_TX_T18p/DIFFOUT_T18p/DQ3T/DQ2T/T_DM_2/T_DM_2, C18 IO/DIFFIO_TX_T12n/DIFFOUT_T12n/DQ2T/DQ1T/GND/GND, C19 IO/DIFFIO_TX_T12p/DIFFOUT_T12p/DQ2T/DQ1T/T_DQ_30/T_DQ_30, C20 IO/DIFFIO_TX_T10p/DIFFOUT_T10p/DQ2T/DQ1T/T_DM_3/T_DM_3, C22 IO/DIFFIO_TX_T2n/DIFFOUT_T2n/DQ1T/DQ1T/T_DQ_39/T_DQ_39, C23 IO/DIFFIO_TX_T2p/DIFFOUT_T2p/DQ1T/DQ1T/T_DM_4/T_DM_4, D10 IO/DIFFIO_TX_T28p/DIFFOUT_T28p/DQ4T/DQ2T/T_DQ_14/T_DQ_14, D11 IO/DIFFIO_TX_T40p/DIFFOUT_T40p/DQ5T/T_DQ_2/T_DQ_2, D12 IO/RZQ_2/DIFFIO_TX_T40n/DIFFOUT_T40n, D13 IO/DIFFIO_RX_T39n/DIFFOUT_T39n/DQ5T/T_DQ_0/T_DQ_0, D15 IO/DIFFIO_RX_T23n/DIFFOUT_T23n/DQ3T/DQ2T/T_DQ_16/T_DQ_16, D16 IO/DIFFIO_RX_T27n/DIFFOUT_T27n/DQ4T/DQ2T/T_DQ_12/T_DQ_12, D17 IO/DIFFIO_RX_T15n/DIFFOUT_T15n/DQ2T/DQ1T/T_DQ_24/T_DQ_24, D18 IO/DIFFIO_RX_T15p/DIFFOUT_T15p/DQ2T/DQ1T/T_DQ_25/T_DQ_25, D20 IO/DIFFIO_RX_T7n/DIFFOUT_T7n/DQ1T/DQ1T/T_DQ_32/T_DQ_32, D21 IO/DIFFIO_RX_T7p/DIFFOUT_T7p/DQ1T/DQ1T/T_DQ_33/T_DQ_33, E10 IO/DIFFIO_TX_T32p/DIFFOUT_T32p/DQ4T/DQ2T/T_DQ_10/T_DQ_10, E11 IO/DIFFIO_TX_T32n/DIFFOUT_T32n/GND/GND, E13 IO/DIFFIO_RX_T39p/DIFFOUT_T39p/DQ5T/T_DQ_1/T_DQ_1, E15 IO/DIFFIO_RX_T31n/DIFFOUT_T31n/DQ4T/DQ2T/T_DQ_8/T_DQ_8, E16 IO/DIFFIO_RX_T27p/DIFFOUT_T27p/DQ4T/DQ2T/T_DQ_13/T_DQ_13, E18 IO/DIFFIO_RX_T19p/DIFFOUT_T19p/DQ3T/DQ2T/T_DQ_21/T_DQ_21, E19 IO/DIFFIO_RX_T11n/DIFFOUT_T11n/DQ2T/DQ1T/T_DQ_28/T_DQ_28, E20 IO/DIFFIO_RX_T11p/DIFFOUT_T11p/DQ2T/DQ1T/T_DQ_29/T_DQ_29, F12 IO/DIFFIO_RX_T35n/DIFFOUT_T35n/DQ5T/T_DQ_4/T_DQ_4, F16 IO/DIFFIO_RX_T31p/DIFFOUT_T31p/DQ4T/DQ2T/T_DQ_9/T_DQ_9, F18 IO/DIFFIO_RX_T19n/DIFFOUT_T19n/DQ3T/DQ2T/T_DQ_20/T_DQ_20, G11 IO/CLK10n/DIFFIO_RX_T33n/DIFFOUT_T33n, G12 IO/DIFFIO_RX_T35p/DIFFOUT_T35p/DQ5T/T_DQ_5/T_DQ_5, G14 IO/CLK11n/DIFFIO_RX_T25n/DIFFOUT_T25n, G15 IO/CLK11p/DIFFIO_RX_T25p/DIFFOUT_T25p, G16 IO/DIFFIO_RX_T9p/DIFFOUT_T9p/GND/GND, G17 IO/DIFFIO_RX_T9n/DIFFOUT_T9n/GND/GND, H12 IO/CLK10p/DIFFIO_RX_T33p/DIFFOUT_T33p, H13 IO/DIFFIO_RX_T17n/DIFFOUT_T17n/GND/GND, H14 IO/DIFFIO_RX_T17p/DIFFOUT_T17p/GND/GND, H15 IO/DIFFIO_RX_T1p/DIFFOUT_T1p/GND/GND, H17 IO/DIFFIO_RX_T5n/DIFFOUT_T5n/DQSn1T/DQSn1T/T_DQS#_4/T_DQS#_4, H18 IO/DIFFIO_RX_T5p/DIFFOUT_T5p/DQS1T/DQS1T/T_DQS_4/T_DQS_4, J11 IO/DIFFIO_RX_T13n/DIFFOUT_T13n/DQSn2T/DQ1T/T_DQS#_3/T_DQS#_3, J12 IO/DIFFIO_RX_T13p/DIFFOUT_T13p/DQS2T/DQ1T/T_DQS_3/T_DQS_3, J16 IO/DIFFIO_RX_T1n/DIFFOUT_T1n/GND/GND, K11 IO/DIFFIO_RX_T21n/DIFFOUT_T21n/DQSn3T/DQSn2T/T_DQS#_2/T_DQS#_2, L11 IO/DIFFIO_RX_T37n/DIFFOUT_T37n/DQSn5T/T_DQS#_0/T_DQS#_0, L12 IO/DIFFIO_RX_T21p/DIFFOUT_T21p/DQS3T/DQS2T/T_DQS_2/T_DQS_2, M11 IO/DIFFIO_RX_T37p/DIFFOUT_T37p/DQS5T/T_DQS_0/T_DQS_0, M12 IO/DIFFIO_RX_T29n/DIFFOUT_T29n/DQSn4T/DQ2T/T_DQS#_1/T_DQS#_1, N12 IO/DIFFIO_RX_T29p/DIFFOUT_T29p/DQS4T/DQ2T/T_DQS_1/T_DQS_1
part H pins: A5 IO/DIFFIO_TX_T42p/DIFFOUT_T42p/DQ6T/T_A_0/T_CA_0, A7 IO/FPLL_TL_CLKOUT0/FPLL_TL_CLKOUTp/FPLL_TL_FB/DIFFIO_TX_T44p/DIFFOUT_T44p/DQ6T/T_A_2/T_CA_2, B6 IO/DIFFIO_TX_T42n/DIFFOUT_T42n/DQ6T/T_A_1/T_CA_1, B7 IO/FPLL_TL_CLKOUT1/FPLL_TL_CLKOUTn/DIFFIO_TX_T44n/DIFFOUT_T44n/DQ6T/T_A_3/T_CA_3, C7 IO/DIFFIO_TX_T48n/DIFFOUT_T48n/GND/GND, C8 VREFB8AN0, D6 IO/DIFFIO_TX_T46p/DIFFOUT_T46p/T_A_6/T_CA_6, D7 IO/DIFFIO_TX_T48p/DIFFOUT_T48p/DQ6T/T_BA_0, D8 IO/DIFFIO_TX_T56p/DIFFOUT_T56p/DQ7T/T_WE#, E6 IO/DIFFIO_TX_T46n/DIFFOUT_T46n/DQ6T/T_A_7/T_CA_7, E9 IO/DIFFIO_TX_T56n/DIFFOUT_T56n/GND/GND, F6 IO/DIFFIO_TX_T50p/DIFFOUT_T50p/DQ7T/T_CAS#, F7 IO/DIFFIO_TX_T52n/DIFFOUT_T52n/DQ7T/T_A_11, G6 IO/DIFFIO_TX_T50n/DIFFOUT_T50n/DQ7T/T_RAS#, G7 IO/DIFFIO_TX_T52p/DIFFOUT_T52p/DQ7T/T_A_10, G10 IO/DIFFIO_RX_T47n/DIFFOUT_T47n/DQ6T/T_BA_2, H7 IO/DIFFIO_TX_T54p/DIFFOUT_T54p/T_A_12, H8 IO/DIFFIO_RX_T43p/DIFFOUT_T43p/DQ6T/T_A_4/T_CA_4, H9 IO/DIFFIO_RX_T43n/DIFFOUT_T43n/DQ6T/T_A_5/T_CA_5, H10 IO/DIFFIO_RX_T47p/DIFFOUT_T47p/DQ6T/T_BA_1, J7 IO/DIFFIO_TX_T54n/DIFFOUT_T54n/DQ7T/T_A_13, J8 IO/DIFFIO_RX_T51n/DIFFOUT_T51n/DQ7T/T_A_9/T_CA_9, J10 IO/DIFFIO_RX_T53n/DIFFOUT_T53n/DQSn7T/T_CS#_1/T_CS#_1, K6 IO/DIFFIO_RX_T55n/DIFFOUT_T55n/DQ7T/T_A_15, K8 IO/DIFFIO_RX_T51p/DIFFOUT_T51p/DQ7T/T_A_8/T_CA_8, K9 IO/CLK8n/FPLL_TL_FBn/DIFFIO_RX_T49n/DIFFOUT_T49n, K10 IO/DIFFIO_RX_T53p/DIFFOUT_T53p/DQS7T/T_CS#_0/T_CS#_0, L7 IO/DIFFIO_RX_T55p/DIFFOUT_T55p/DQ7T/T_A_14, L8 IO/CLK8p/FPLL_TL_FBp/DIFFIO_RX_T49p/DIFFOUT_T49p, L9 IO/DIFFIO_RX_T45n/DIFFOUT_T45n/DQSn6T/T_CK#/T_CK#, M9 IO/DIFFIO_RX_T45p/DIFFOUT_T45p/DQS6T/T_CK/T_CK, M10 IO/CLK9n/DIFFIO_RX_T41n/DIFFOUT_T41n, N9 IO/CLK9p/DIFFIO_RX_T41p/DIFFOUT_T41p
part I pins: A2 MSEL2, A6 CONF_DONE, AB5 AS_DATA2/DATA2, AD5 AS_DATA1/DATA1, AF5 AS_DATA0/ASDO/DATA0, B1 RREF_TL, B5 nSTATUS, D5 nCE, F5 nCONFIG, J5 MSEL4, K5 MSEL3, L6 MSEL1, M7 MSEL0, N8 DCLK, R6 TMS, T6 TDI, U6 AS_DATA3/DATA3, V7 TDO, Y5 TCK, Y6 nCSO/DATA4
part J pins: A10 VCCIO7A, A20 VCCIO7A, AA8 VCC_AUX, AA9 VCCPGM, AA10 VCCIO3B, AA11 VCCPD3B4A, AA13 VCCPD3B4A, AA17 VCCPD3B4A, AA19 VCCPD3B4A, AA20 VCCIO4A, AB9 VCCPD3A, AB13 VCCIO4A, AB14 VCC_AUX, AB20 VCC_AUX, AB21 VCCPD3B4A, AB23 VCCIO5A, AC6 VCCIO3A, AC16 VCCIO4A, AD9 VCCIO3B, AD19 VCCIO4A, AE12 VCCIO4A, AE22 VCCIO4A, AF15 VCCIO4A, B13 VCCIO7A, B23 VCCIO7A, C6 VCCIO8A, C16 VCCIO7A, C26 VCCIO6A, D9 VCCIO8A, D19 VCCIO7A, E8 VCCBAT, E12 VCCIO7A, E14 VCC_AUX, E22 VCCIO6A, F8 VCCPGM, F9 VCCPD7A8A, F11 VCCPD7A8A, F13 VCCPD7A8A, F15 VCCIO7A, F17 VCCPD7A8A, F19 VCCPD7A8A, F25 VCCIO6A, G8 VCCIO8A, G9 VCC_AUX, G18 VCCIO7A, G19 VCC_AUX, G21 VCCA_FPLL, H11 VCCIO7A, H21 VCCIO6A, J3 VCC, J6 VCCA_FPLL, J13 VCC, J15 VCC, J17 VCC, J19 VCC, J22 VCCPD6A, J24 VCCIO6A, K4 VCC, K7 VCCIO8A, K14 VCC, K16 VCC, K18 VCC, K20 VCC, L3 VCCA_FPLL, L13 VCC, L15 VCC, L17 VCC, L19 VCC, L21 VCCPD6A, M4 VCC, M14 VCC, M16 VCC, M18 VCC, M20 VCC, M23 VCCIO6A, N3 VCC, N5 VCC, N13 VCC, N15 VCC, N17 VCC, N19 VCC, N22 VCCPD5B, N26 VCCIO5B, P4 VCC, P14 VCC, P16 VCC, P18 VCC, R3 VCCA_FPLL, R5 VCC, R13 VCC, R15 VCC, R17 VCC, R19 VCC, R21 VCCPD5B, R22 VCCIO5B, T4 VCCA_FPLL, T14 VCC, T16 VCC, T18 VCC, T25 VCCIO5B, U3 VCC, U5 VCC, U8 VCCIO3B, U18 VCCIO4A, U21 VCCPD5A, V11 VCCIO3B, V21 VCCIO5A, W7 VCCA_FPLL, W14 VCCIO4A, W22 VCCPGM, W24 VCCIO5B, Y7 VCCIO3A, Y17 VCCIO4A, Y21 VCCA_FPLL
part K pins: A15 GND, A25 GND, AA1 GND, AA2 GND, AA5 GND, AA15 GND, AA25 GND, AB1 GND, AB2 GND, AB3 GND, AB4 GND, AB8 GND, AB18 GND, AC1 GND, AC2 GND, AC5 GND, AC11 GND, AC21 GND, AC26 GND, AD1 GND, AD2 GND, AD3 GND, AD4 GND, AD14 GND, AD24 GND, AE1 GND, AE2 GND, AE5 GND, AE7 GND, AE17 GND, AF2 GND, AF3 GND, AF4 GND, AF10 GND, AF20 GND, AF25 GND, B2 GND, B3 GND, B4 GND, B8 GND, B18 GND, C1 GND, C2 GND, C5 GND, C11 GND, C21 GND, D1 GND, D2 GND, D3 GND, D4 GND, D14 GND, D23 GND, D24 GND, E1 GND, E2 GND, E5 GND, E7 GND, E17 GND, F1 GND, F2 GND, F3 GND, F4 GND, F10 GND, F20 GND, G1 GND, G2 GND, G5 GND, G13 GND, G23 GND, H1 GND, H2 GND, H3 GND, H4 GND, H5 GND, H6 GND, H16 GND, H26 GND, J1 GND, J2 GND, J4 GND, J9 GND, J14 GND, J18 GND, K3 GND, K12 GND, K13 GND, K15 GND, K17 GND, K19 GND, K22 GND, L1 GND, L2 GND, L4 GND, L5 GND, L10 GND, L14 GND, L16 GND, L18 GND, L20 GND, L25 GND, M1 GND, M2 GND, M3 GND, M5 GND, M6 GND, M8 GND, M13 GND, M15 GND, M17 GND, M19 GND, N1 GND, N2 GND, N4 GND, N6 GND, N7 GND, N11 GND, N14 GND, N16 GND, N18 GND, N21 GND, P3 GND, P5 GND, P6 GND, P7 GND, P9 GND, P13 GND, P15 GND, P17 GND, P19 GND, P24 GND, R1 GND, R2 GND, R4 GND, R7 GND, R12 GND, R14 GND, R16 GND, R18 GND, T1 GND, T2 GND, T3 GND, T5 GND, T10 GND, T15 GND, T20 GND, U1 GND, U2 GND, U4 GND, U13 GND, U23 GND, V1 GND, V2 GND, V3 GND, V4 GND, V5 GND, V6 GND, V16 GND, V26 GND, W1 GND, W2 GND, W5 GND, W6 GND, W9 GND, W19 GND, Y1 GND, Y2 GND, Y3 GND, Y4 GND, Y12 GND, Y22 GND
part L pins: A3 DNU, A4 DNU, AA3 DNU, AA4 DNU, AA12 DNU, AB7 DNU, AC3 DNU, AC4 DNU, AE3 DNU, AE4 DNU, C3 DNU, C4 DNU, C24 DNU, E3 DNU, E4 DNU, F14 DNU, G3 DNU, G4 DNU, K1 DNU, K2 DNU, P1 DNU, P2 DNU, W3 DNU, W4 DNU
part A text: BANK 3A
part B text: BANK 3B
part C text: BANK 4A
part D text: BANK 5A
part E text: BANK 5B
part F text: BANK 6A
part G text: BANK 7A
part H text: BANK 8A
part I text: CONFIG
part J text: PWR
part L text: GXB (RFU)

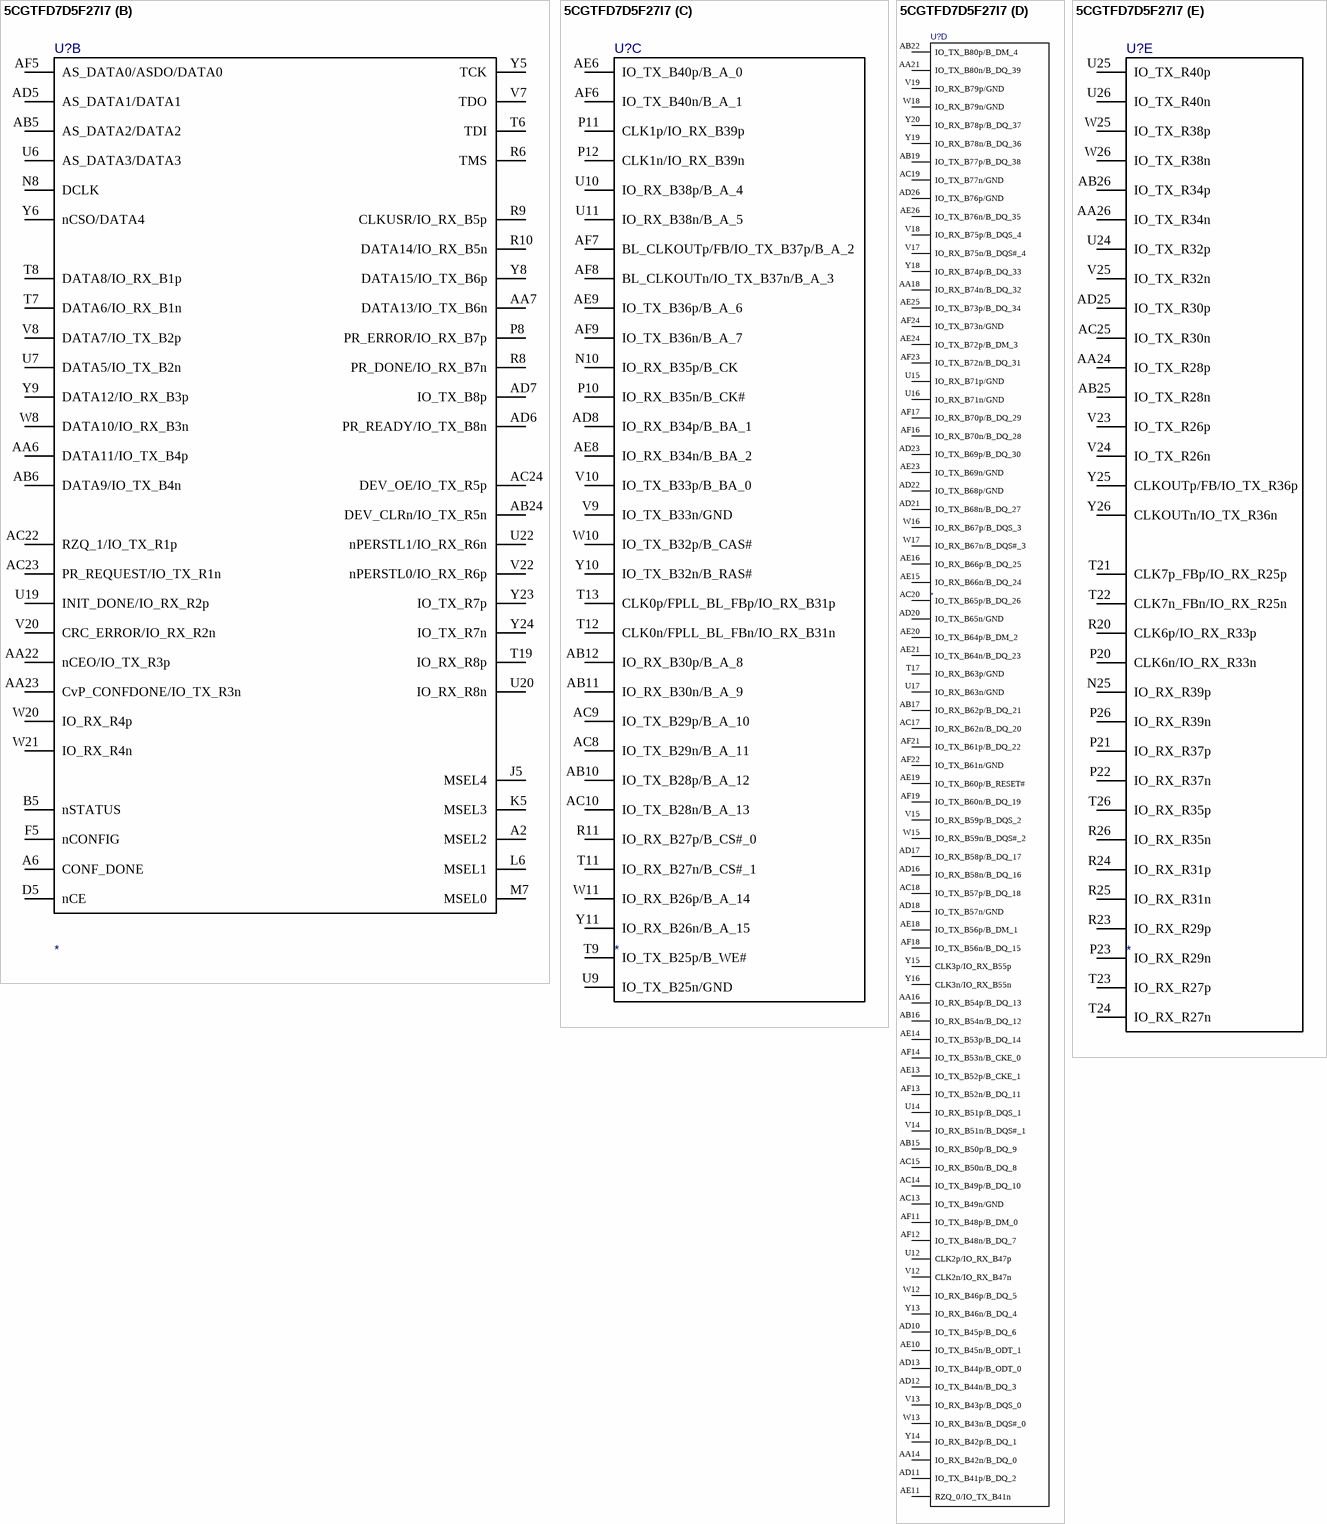
[diagram p7: symbol 5CGTFD7D5F27I7]

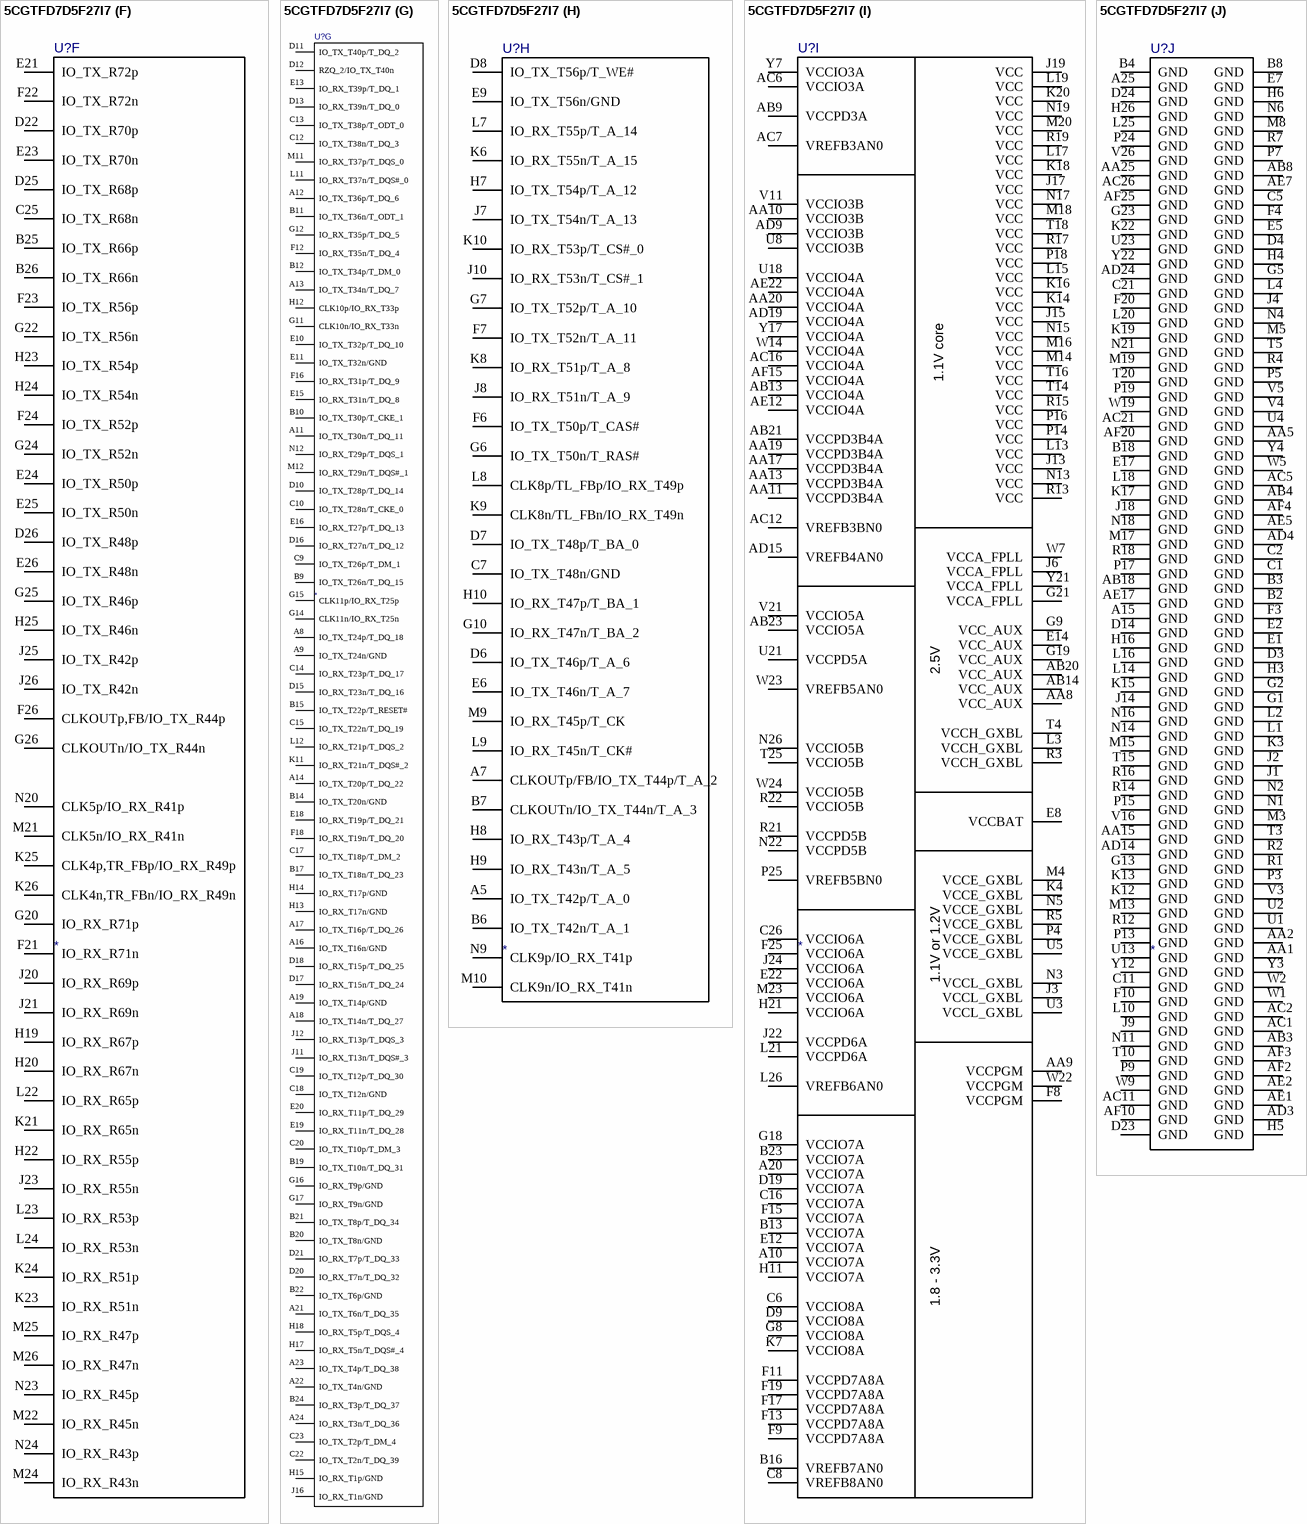
[diagram p8: symbol 5CGTFD7D5F27I7]

## 5CGTFD7D5F27I7
designator U?
part A pins: AA3 GXB_TX_L2n, AA4 GXB_TX_L2p, AB1 GXB_RX_L1n/GXB_REFCLK_L1n, AB2 GXB_RX_L1p/GXB_REFCLK_L1p, AC3 GXB_TX_L1n, AC4 GXB_TX_L1p, AD1 GXB_RX_L0n/GXB_REFCLK_L0n, AD2 GXB_RX_L0p/GXB_REFCLK_L0p, AE3 GXB_TX_L0n, AE4 GXB_TX_L0p, B1 RREF_TL, C3 GXB_TX_L8n, C4 GXB_TX_L8p, D1 GXB_RX_L8n/GXB_REFCLK_L8n, D2 GXB_RX_L8p/GXB_REFCLK_L8p, E3 GXB_TX_L7n, E4 GXB_TX_L7p, F1 GXB_RX_L7n/GXB_REFCLK_L7n, F2 GXB_RX_L7p/GXB_REFCLK_L7p, G3 GXB_TX_L6n, G4 GXB_TX_L6p, H1 GXB_RX_L6n/GXB_REFCLK_L6n, H2 GXB_RX_L6p/GXB_REFCLK_L6p, K1 GXB_TX_L5n, K2 GXB_TX_L5p, L5 REFCLK2Ln, M1 GXB_RX_L5n/GXB_REFCLK_L5n, M2 GXB_RX_L5p/GXB_REFCLK_L5p, M6 REFCLK2Lp, N7 REFCLK1Lp, P1 GXB_TX_L4n, P2 GXB_TX_L4p, P6 REFCLK1Ln, T1 GXB_RX_L4n/GXB_REFCLK_L4n, T2 GXB_RX_L4p/GXB_REFCLK_L4p, V1 GXB_RX_L3n/GXB_REFCLK_L3n, V2 GXB_RX_L3p/GXB_REFCLK_L3p, V6 REFCLK0Lp, W3 GXB_TX_L3n, W4 GXB_TX_L3p, W6 REFCLK0Ln, Y1 GXB_RX_L2n/GXB_REFCLK_L2n, Y2 GXB_RX_L2p/GXB_REFCLK_L2p
part B pins: A2 MSEL2, A6 CONF_DONE, AA6 DATA11/IO_TX_B4p, AA7 DATA13/IO_TX_B6n, AA22 nCEO/IO_TX_R3p, AA23 CvP_CONFDONE/IO_TX_R3n, AB5 AS_DATA2/DATA2, AB6 DATA9/IO_TX_B4n, AB24 DEV_CLRn/IO_TX_R5n, AC22 RZQ_1/IO_TX_R1p, AC23 PR_REQUEST/IO_TX_R1n, AC24 DEV_OE/IO_TX_R5p, AD5 AS_DATA1/DATA1, AD6 PR_READY/IO_TX_B8n, AD7 IO_TX_B8p, AF5 AS_DATA0/ASDO/DATA0, B5 nSTATUS, D5 nCE, F5 nCONFIG, J5 MSEL4, K5 MSEL3, L6 MSEL1, M7 MSEL0, N8 DCLK, P8 PR_ERROR/IO_RX_B7p, R6 TMS, R8 PR_DONE/IO_RX_B7n, R9 CLKUSR/IO_RX_B5p, R10 DATA14/IO_RX_B5n, T6 TDI, T7 DATA6/IO_RX_B1n, T8 DATA8/IO_RX_B1p, T19 IO_RX_R8p, U6 AS_DATA3/DATA3, U7 DATA5/IO_TX_B2n, U19 INIT_DONE/IO_RX_R2p, U20 IO_RX_R8n, U22 nPERSTL1/IO_RX_R6n, V7 TDO, V8 DATA7/IO_TX_B2p, V20 CRC_ERROR/IO_RX_R2n, V22 nPERSTL0/IO_RX_R6p, W8 DATA10/IO_RX_B3n, W20 IO_RX_R4p, W21 IO_RX_R4n, Y5 TCK, Y6 nCSO/DATA4, Y8 DATA15/IO_TX_B6p, Y9 DATA12/IO_RX_B3p, Y23 IO_TX_R7p, Y24 IO_TX_R7n
part C pins: AB10 IO_TX_B28p/B_A_12, AB11 IO_RX_B30n/B_A_9, AB12 IO_RX_B30p/B_A_8, AC8 IO_TX_B29n/B_A_11, AC9 IO_TX_B29p/B_A_10, AC10 IO_TX_B28n/B_A_13, AD8 IO_RX_B34p/B_BA_1, AE6 IO_TX_B40p/B_A_0, AE8 IO_RX_B34n/B_BA_2, AE9 IO_TX_B36p/B_A_6, AF6 IO_TX_B40n/B_A_1, AF7 BL_CLKOUTp/FB/IO_TX_B37p/B_A_2, AF8 BL_CLKOUTn/IO_TX_B37n/B_A_3, AF9 IO_TX_B36n/B_A_7, N10 IO_RX_B35p/B_CK, P10 IO_RX_B35n/B_CK#, P11 CLK1p/IO_RX_B39p, P12 CLK1n/IO_RX_B39n, R11 IO_RX_B27p/B_CS#_0, T9 IO_TX_B25p/B_WE#, T11 IO_RX_B27n/B_CS#_1, T12 CLK0n/FPLL_BL_FBn/IO_RX_B31n, T13 CLK0p/FPLL_BL_FBp/IO_RX_B31p, U9 IO_TX_B25n/GND, U10 IO_RX_B38p/B_A_4, U11 IO_RX_B38n/B_A_5, V9 IO_TX_B33n/GND, V10 IO_TX_B33p/B_BA_0, W10 IO_TX_B32p/B_CAS#, W11 IO_RX_B26p/B_A_14, Y10 IO_TX_B32n/B_RAS#, Y11 IO_RX_B26n/B_A_15
part D pins: AA14 IO_RX_B42n/B_DQ_0, AA16 IO_RX_B54p/B_DQ_13, AA18 IO_RX_B74n/B_DQ_32, AA21 IO_TX_B80n/B_DQ_39, AB15 IO_RX_B50p/B_DQ_9, AB16 IO_RX_B54n/B_DQ_12, AB17 IO_RX_B62p/B_DQ_21, AB19 IO_TX_B77p/B_DQ_38, AB22 IO_TX_B80p/B_DM_4, AC13 IO_TX_B49n/GND, AC14 IO_TX_B49p/B_DQ_10, AC15 IO_RX_B50n/B_DQ_8, AC17 IO_RX_B62n/B_DQ_20, AC18 IO_TX_B57p/B_DQ_18, AC19 IO_TX_B77n/GND, AC20 IO_TX_B65p/B_DQ_26, AD10 IO_TX_B45p/B_DQ_6, AD11 IO_TX_B41p/B_DQ_2, AD12 IO_TX_B44n/B_DQ_3, AD13 IO_TX_B44p/B_ODT_0, AD16 IO_RX_B58n/B_DQ_16, AD17 IO_RX_B58p/B_DQ_17, AD18 IO_TX_B57n/GND, AD20 IO_TX_B65n/GND, AD21 IO_TX_B68n/B_DQ_27, AD22 IO_TX_B68p/GND, AD23 IO_TX_B69p/B_DQ_30, AD26 IO_TX_B76p/GND, AE10 IO_TX_B45n/B_ODT_1, AE11 RZQ_0/IO_TX_B41n, AE13 IO_TX_B52p/B_CKE_1, AE14 IO_TX_B53p/B_DQ_14, AE15 IO_RX_B66n/B_DQ_24, AE16 IO_RX_B66p/B_DQ_25, AE18 IO_TX_B56p/B_DM_1, AE19 IO_TX_B60p/B_RESET#, AE20 IO_TX_B64p/B_DM_2, AE21 IO_TX_B64n/B_DQ_23, AE23 IO_TX_B69n/GND, AE24 IO_TX_B72p/B_DM_3, AE25 IO_TX_B73p/B_DQ_34, AE26 IO_TX_B76n/B_DQ_35, AF11 IO_TX_B48p/B_DM_0, AF12 IO_TX_B48n/B_DQ_7, AF13 IO_TX_B52n/B_DQ_11, AF14 IO_TX_B53n/B_CKE_0, AF16 IO_RX_B70n/B_DQ_28, AF17 IO_RX_B70p/B_DQ_29, AF18 IO_TX_B56n/B_DQ_15, AF19 IO_TX_B60n/B_DQ_19, AF21 IO_TX_B61p/B_DQ_22, AF22 IO_TX_B61n/GND, AF23 IO_TX_B72n/B_DQ_31, AF24 IO_TX_B73n/GND, T17 IO_RX_B63p/GND, U12 CLK2p/IO_RX_B47p, U14 IO_RX_B51p/B_DQS_1, U15 IO_RX_B71p/GND, U16 IO_RX_B71n/GND, U17 IO_RX_B63n/GND, V12 CLK2n/IO_RX_B47n, V13 IO_RX_B43p/B_DQS_0, V14 IO_RX_B51n/B_DQS#_1, V15 IO_RX_B59p/B_DQS_2, V17 IO_RX_B75n/B_DQS#_4, V18 IO_RX_B75p/B_DQS_4, V19 IO_RX_B79p/GND, W12 IO_RX_B46p/B_DQ_5, W13 IO_RX_B43n/B_DQS#_0, W15 IO_RX_B59n/B_DQS#_2, W16 IO_RX_B67p/B_DQS_3, W17 IO_RX_B67n/B_DQS#_3, W18 IO_RX_B79n/GND, Y13 IO_RX_B46n/B_DQ_4, Y14 IO_RX_B42p/B_DQ_1, Y15 CLK3p/IO_RX_B55p, Y16 CLK3n/IO_RX_B55n, Y18 IO_RX_B74p/B_DQ_33, Y19 IO_RX_B78n/B_DQ_36, Y20 IO_RX_B78p/B_DQ_37
part E pins: AA24 IO_TX_R28p, AA26 IO_TX_R34n, AB25 IO_TX_R28n, AB26 IO_TX_R34p, AC25 IO_TX_R30n, AD25 IO_TX_R30p, N25 IO_RX_R39p, P20 CLK6n/IO_RX_R33n, P21 IO_RX_R37p, P22 IO_RX_R37n, P23 IO_RX_R29n, P26 IO_RX_R39n, R20 CLK6p/IO_RX_R33p, R23 IO_RX_R29p, R24 IO_RX_R31p, R25 IO_RX_R31n, R26 IO_RX_R35n, T21 CLK7p_FBp/IO_RX_R25p, T22 CLK7n_FBn/IO_RX_R25n, T23 IO_RX_R27p, T24 IO_RX_R27n, T26 IO_RX_R35p, U24 IO_TX_R32p, U25 IO_TX_R40p, U26 IO_TX_R40n, V23 IO_TX_R26p, V24 IO_TX_R26n, V25 IO_TX_R32n, W25 IO_TX_R38p, W26 IO_TX_R38n, Y25 CLKOUTp/FB/IO_TX_R36p, Y26 CLKOUTn/IO_TX_R36n
part F pins: B25 IO_TX_R66p, B26 IO_TX_R66n, C25 IO_TX_R68n, D22 IO_TX_R70p, D25 IO_TX_R68p, D26 IO_TX_R48p, E21 IO_TX_R72p, E23 IO_TX_R70n, E24 IO_TX_R50p, E25 IO_TX_R50n, E26 IO_TX_R48n, F21 IO_RX_R71n, F22 IO_TX_R72n, F23 IO_TX_R56p, F24 IO_TX_R52p, F26 CLKOUTp,FB/IO_TX_R44p, G20 IO_RX_R71p, G22 IO_TX_R56n, G24 IO_TX_R52n, G25 IO_TX_R46p, G26 CLKOUTn/IO_TX_R44n, H19 IO_RX_R67p, H20 IO_RX_R67n, H22 IO_RX_R55p, H23 IO_TX_R54p, H24 IO_TX_R54n, H25 IO_TX_R46n, J20 IO_RX_R69p, J21 IO_RX_R69n, J23 IO_RX_R55n, J25 IO_TX_R42p, J26 IO_TX_R42n, K21 IO_RX_R65n, K23 IO_RX_R51n, K24 IO_RX_R51p, K25 CLK4p,TR_FBp/IO_RX_R49p, K26 CLK4n,TR_FBn/IO_RX_R49n, L22 IO_RX_R65p, L23 IO_RX_R53p, L24 IO_RX_R53n, M21 CLK5n/IO_RX_R41n, M22 IO_RX_R45n, M24 IO_RX_R43n, M25 IO_RX_R47p, M26 IO_RX_R47n, N20 CLK5p/IO_RX_R41p, N23 IO_RX_R45p, N24 IO_RX_R43p
part G pins: A8 IO_TX_T24p/T_DQ_18, A9 IO_TX_T24n/GND, A11 IO_TX_T30n/T_DQ_11, A12 IO_TX_T36p/T_DQ_6, A13 IO_TX_T34n/T_DQ_7, A14 IO_TX_T20p/T_DQ_22, A16 IO_TX_T16n/GND, A17 IO_TX_T16p/T_DQ_26, A18 IO_TX_T14n/T_DQ_27, A19 IO_TX_T14p/GND, A21 IO_TX_T6n/T_DQ_35, A22 IO_TX_T4n/GND, A23 IO_TX_T4p/T_DQ_38, A24 IO_RX_T3n/T_DQ_36, B9 IO_TX_T26n/T_DQ_15, B10 IO_TX_T30p/T_CKE_1, B11 IO_TX_T36n/T_ODT_1, B12 IO_TX_T34p/T_DM_0, B14 IO_TX_T20n/GND, B15 IO_TX_T22p/T_RESET#, B17 IO_TX_T18n/T_DQ_23, B19 IO_TX_T10n/T_DQ_31, B20 IO_TX_T8n/GND, B21 IO_TX_T8p/T_DQ_34, B22 IO_TX_T6p/GND, B24 IO_RX_T3p/T_DQ_37, C9 IO_TX_T26p/T_DM_1, C10 IO_TX_T28n/T_CKE_0, C12 IO_TX_T38n/T_DQ_3, C13 IO_TX_T38p/T_ODT_0, C14 IO_RX_T23p/T_DQ_17, C15 IO_TX_T22n/T_DQ_19, C17 IO_TX_T18p/T_DM_2, C18 IO_TX_T12n/GND, C19 IO_TX_T12p/T_DQ_30, C20 IO_TX_T10p/T_DM_3, C22 IO_TX_T2n/T_DQ_39, C23 IO_TX_T2p/T_DM_4, D10 IO_TX_T28p/T_DQ_14, D11 IO_TX_T40p/T_DQ_2, D12 RZQ_2/IO_TX_T40n, D13 IO_RX_T39n/T_DQ_0, D15 IO_RX_T23n/T_DQ_16, D16 IO_RX_T27n/T_DQ_12, D17 IO_RX_T15n/T_DQ_24, D18 IO_RX_T15p/T_DQ_25, D20 IO_RX_T7n/T_DQ_32, D21 IO_RX_T7p/T_DQ_33, E10 IO_TX_T32p/T_DQ_10, E11 IO_TX_T32n/GND, E13 IO_RX_T39p/T_DQ_1, E15 IO_RX_T31n/T_DQ_8, E16 IO_RX_T27p/T_DQ_13, E18 IO_RX_T19p/T_DQ_21, E19 IO_RX_T11n/T_DQ_28, E20 IO_RX_T11p/T_DQ_29, F12 IO_RX_T35n/T_DQ_4, F16 IO_RX_T31p/T_DQ_9, F18 IO_RX_T19n/T_DQ_20, G11 CLK10n/IO_RX_T33n, G12 IO_RX_T35p/T_DQ_5, G14 CLK11n/IO_RX_T25n, G15 CLK11p/IO_RX_T25p, G16 IO_RX_T9p/GND, G17 IO_RX_T9n/GND, H12 CLK10p/IO_RX_T33p, H13 IO_RX_T17n/GND, H14 IO_RX_T17p/GND, H15 IO_RX_T1p/GND, H17 IO_RX_T5n/T_DQS#_4, H18 IO_RX_T5p/T_DQS_4, J11 IO_RX_T13n/T_DQS#_3, J12 IO_RX_T13p/T_DQS_3, J16 IO_RX_T1n/GND, K11 IO_RX_T21n/T_DQS#_2, L11 IO_RX_T37n/T_DQS#_0, L12 IO_RX_T21p/T_DQS_2, M11 IO_RX_T37p/T_DQS_0, M12 IO_RX_T29n/T_DQS#_1, N12 IO_RX_T29p/T_DQS_1
part H pins: A5 IO_TX_T42p/T_A_0, A7 CLKOUTp/FB/IO_TX_T44p/T_A_2, B6 IO_TX_T42n/T_A_1, B7 CLKOUTn/IO_TX_T44n/T_A_3, C7 IO_TX_T48n/GND, D6 IO_TX_T46p/T_A_6, D7 IO_TX_T48p/T_BA_0, D8 IO_TX_T56p/T_WE#, E6 IO_TX_T46n/T_A_7, E9 IO_TX_T56n/GND, F6 IO_TX_T50p/T_CAS#, F7 IO_TX_T52n/T_A_11, G6 IO_TX_T50n/T_RAS#, G7 IO_TX_T52p/T_A_10, G10 IO_RX_T47n/T_BA_2, H7 IO_TX_T54p/T_A_12, H8 IO_RX_T43p/T_A_4, H9 IO_RX_T43n/T_A_5, H10 IO_RX_T47p/T_BA_1, J7 IO_TX_T54n/T_A_13, J8 IO_RX_T51n/T_A_9, J10 IO_RX_T53n/T_CS#_1, K6 IO_RX_T55n/T_A_15, K8 IO_RX_T51p/T_A_8, K9 CLK8n/TL_FBn/IO_RX_T49n, K10 IO_RX_T53p/T_CS#_0, L7 IO_RX_T55p/T_A_14, L8 CLK8p/TL_FBp/IO_RX_T49p, L9 IO_RX_T45n/T_CK#, M9 IO_RX_T45p/T_CK, M10 CLK9n/IO_RX_T41n, N9 CLK9p/IO_RX_T41p
part I pins: A10 VCCIO7A, A20 VCCIO7A, AA8 VCC_AUX, AA9 VCCPGM, AA10 VCCIO3B, AA11 VCCPD3B4A, AA13 VCCPD3B4A, AA17 VCCPD3B4A, AA19 VCCPD3B4A, AA20 VCCIO4A, AB9 VCCPD3A, AB13 VCCIO4A, AB14 VCC_AUX, AB20 VCC_AUX, AB21 VCCPD3B4A, AB23 VCCIO5A, AC6 VCCIO3A, AC7 VREFB3AN0, AC12 VREFB3BN0, AC16 VCCIO4A, AD9 VCCIO3B, AD15 VREFB4AN0, AD19 VCCIO4A, AE12 VCCIO4A, AE22 VCCIO4A, AF15 VCCIO4A, B13 VCCIO7A, B16 VREFB7AN0, B23 VCCIO7A, C6 VCCIO8A, C8 VREFB8AN0, C16 VCCIO7A, C26 VCCIO6A, D9 VCCIO8A, D19 VCCIO7A, E8 VCCBAT, E12 VCCIO7A, E14 VCC_AUX, E22 VCCIO6A, F8 VCCPGM, F9 VCCPD7A8A, F11 VCCPD7A8A, F13 VCCPD7A8A, F15 VCCIO7A, F17 VCCPD7A8A, F19 VCCPD7A8A, F25 VCCIO6A, G8 VCCIO8A, G9 VCC_AUX, G18 VCCIO7A, G19 VCC_AUX, G21 VCCA_FPLL, H11 VCCIO7A, H21 VCCIO6A, J3 VCCL_GXBL, J6 VCCA_FPLL, J13 VCC, J15 VCC, J17 VCC, J19 VCC, J22 VCCPD6A, J24 VCCIO6A, K4 VCCE_GXBL, K7 VCCIO8A, K14 VCC, K16 VCC, K18 VCC, K20 VCC, L3 VCCH_GXBL, L13 VCC, L15 VCC, L17 VCC, L19 VCC, L21 VCCPD6A, L26 VREFB6AN0, M4 VCCE_GXBL, M14 VCC, M16 VCC, M18 VCC, M20 VCC, M23 VCCIO6A, N3 VCCL_GXBL, N5 VCCE_GXBL, N13 VCC, N15 VCC, N17 VCC, N19 VCC, N22 VCCPD5B, N26 VCCIO5B, P4 VCCE_GXBL, P14 VCC, P16 VCC, P18 VCC, P25 VREFB5BN0, R3 VCCH_GXBL, R5 VCCE_GXBL, R13 VCC, R15 VCC, R17 VCC, R19 VCC, R21 VCCPD5B, R22 VCCIO5B, T4 VCCH_GXBL, T14 VCC, T16 VCC, T18 VCC, T25 VCCIO5B, U3 VCCL_GXBL, U5 VCCE_GXBL, U8 VCCIO3B, U18 VCCIO4A, U21 VCCPD5A, V11 VCCIO3B, V21 VCCIO5A, W7 VCCA_FPLL, W14 VCCIO4A, W22 VCCPGM, W23 VREFB5AN0, W24 VCCIO5B, Y7 VCCIO3A, Y17 VCCIO4A, Y21 VCCA_FPLL
part J pins: A15 GND, A25 GND, AA1 GND, AA2 GND, AA5 GND, AA15 GND, AA25 GND, AB3 GND, AB4 GND, AB8 GND, AB18 GND, AC1 GND, AC2 GND, AC5 GND, AC11 GND, AC21 GND, AC26 GND, AD3 GND, AD4 GND, AD14 GND, AD24 GND, AE1 GND, AE2 GND, AE5 GND, AE7 GND, AE17 GND, AF2 GND, AF3 GND, AF4 GND, AF10 GND, AF20 GND, AF25 GND, B2 GND, B3 GND, B4 GND, B8 GND, B18 GND, C1 GND, C2 GND, C5 GND, C11 GND, C21 GND, D3 GND, D4 GND, D14 GND, D23 GND, D24 GND, E1 GND, E2 GND, E5 GND, E7 GND, E17 GND, F3 GND, F4 GND, F10 GND, F20 GND, G1 GND, G2 GND, G5 GND, G13 GND, G23 GND, H3 GND, H4 GND, H5 GND, H6 GND, H16 GND, H26 GND, J1 GND, J2 GND, J4 GND, J9 GND, J14 GND, J18 GND, K3 GND, K12 GND, K13 GND, K15 GND, K17 GND, K19 GND, K22 GND, L1 GND, L2 GND, L4 GND, L10 GND, L14 GND, L16 GND, L18 GND, L20 GND, L25 GND, M3 GND, M5 GND, M8 GND, M13 GND, M15 GND, M17 GND, M19 GND, N1 GND, N2 GND, N4 GND, N6 GND, N11 GND, N14 GND, N16 GND, N18 GND, N21 GND, P3 GND, P5 GND, P7 GND, P9 GND, P13 GND, P15 GND, P17 GND, P19 GND, P24 GND, R1 GND, R2 GND, R4 GND, R7 GND, R12 GND, R14 GND, R16 GND, R18 GND, T3 GND, T5 GND, T10 GND, T15 GND, T20 GND, U1 GND, U2 GND, U4 GND, U13 GND, U23 GND, V3 GND, V4 GND, V5 GND, V16 GND, V26 GND, W1 GND, W2 GND, W5 GND, W9 GND, W19 GND, Y3 GND, Y4 GND, Y12 GND, Y22 GND
part I text: 1.1V core; 2.5V; 1.1V or 1.2V; 1.8 - 3.3V

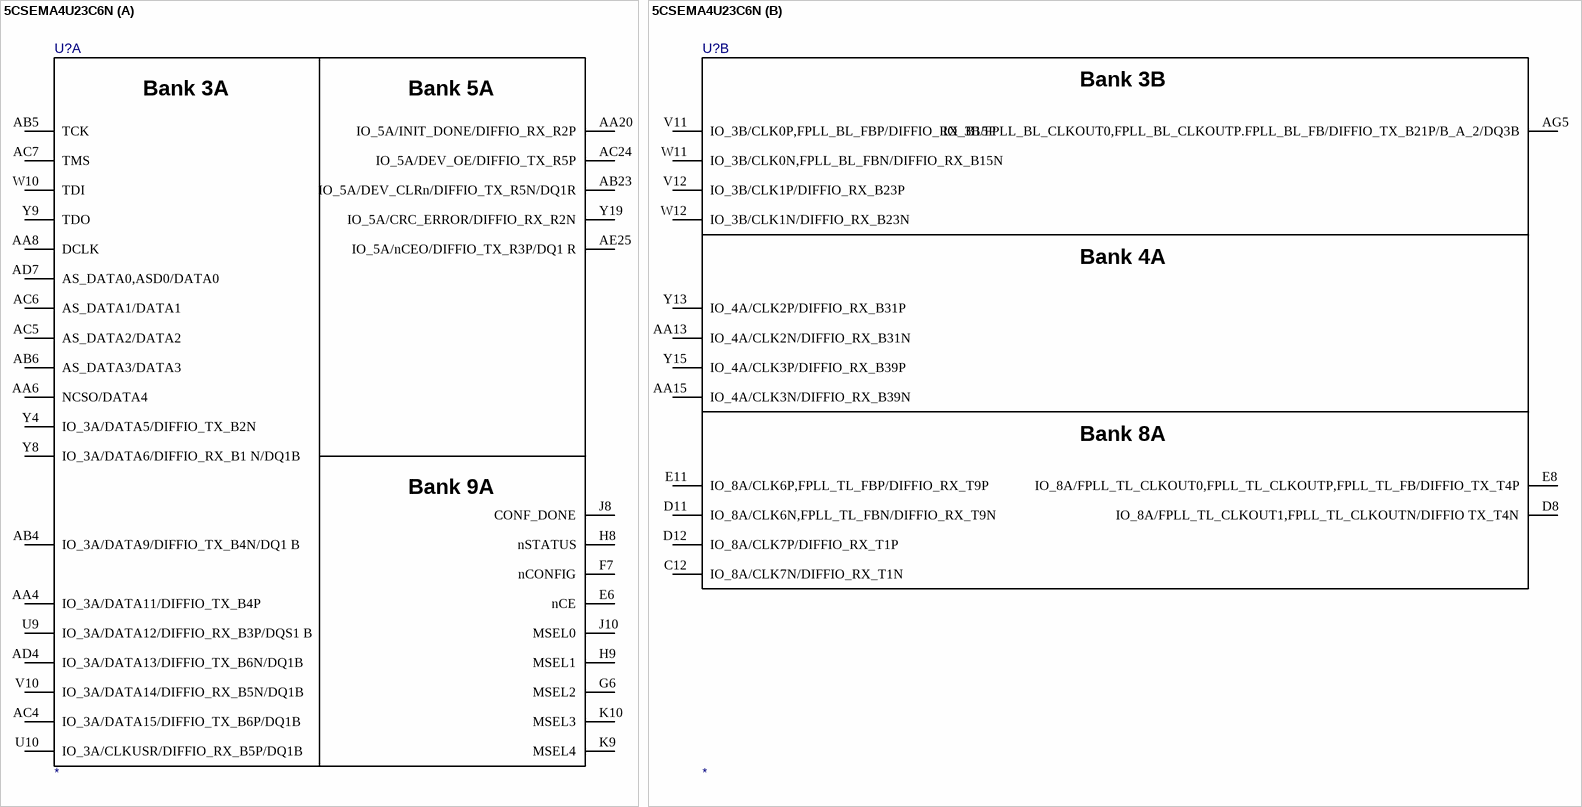
[diagram p9: symbol 5CSEMA4U23C6N]

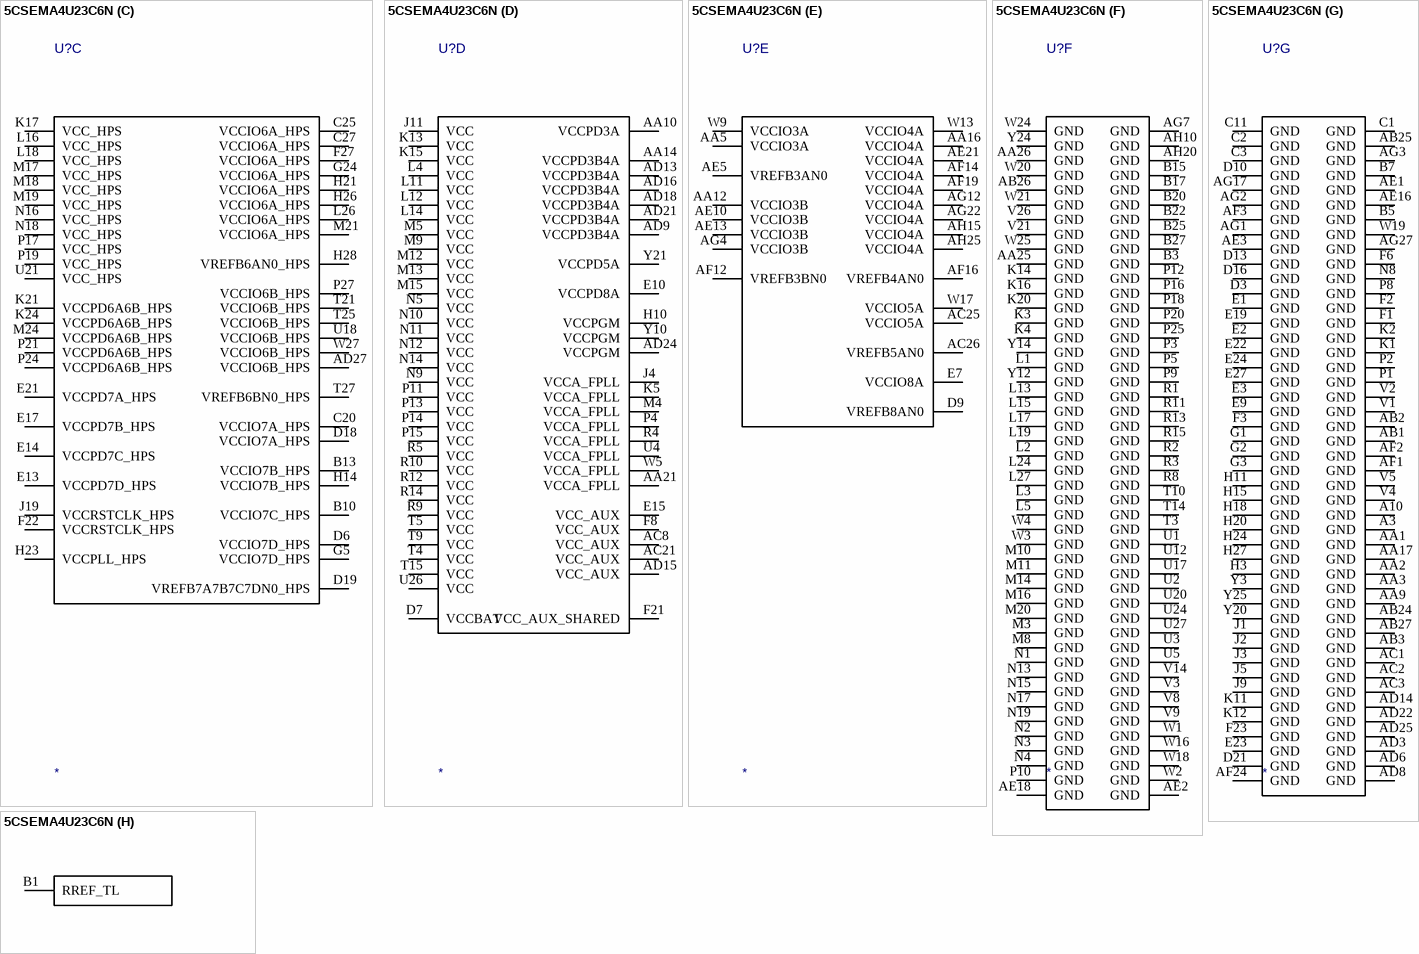
[diagram p10: symbol 5CSEMA4U23C6N]

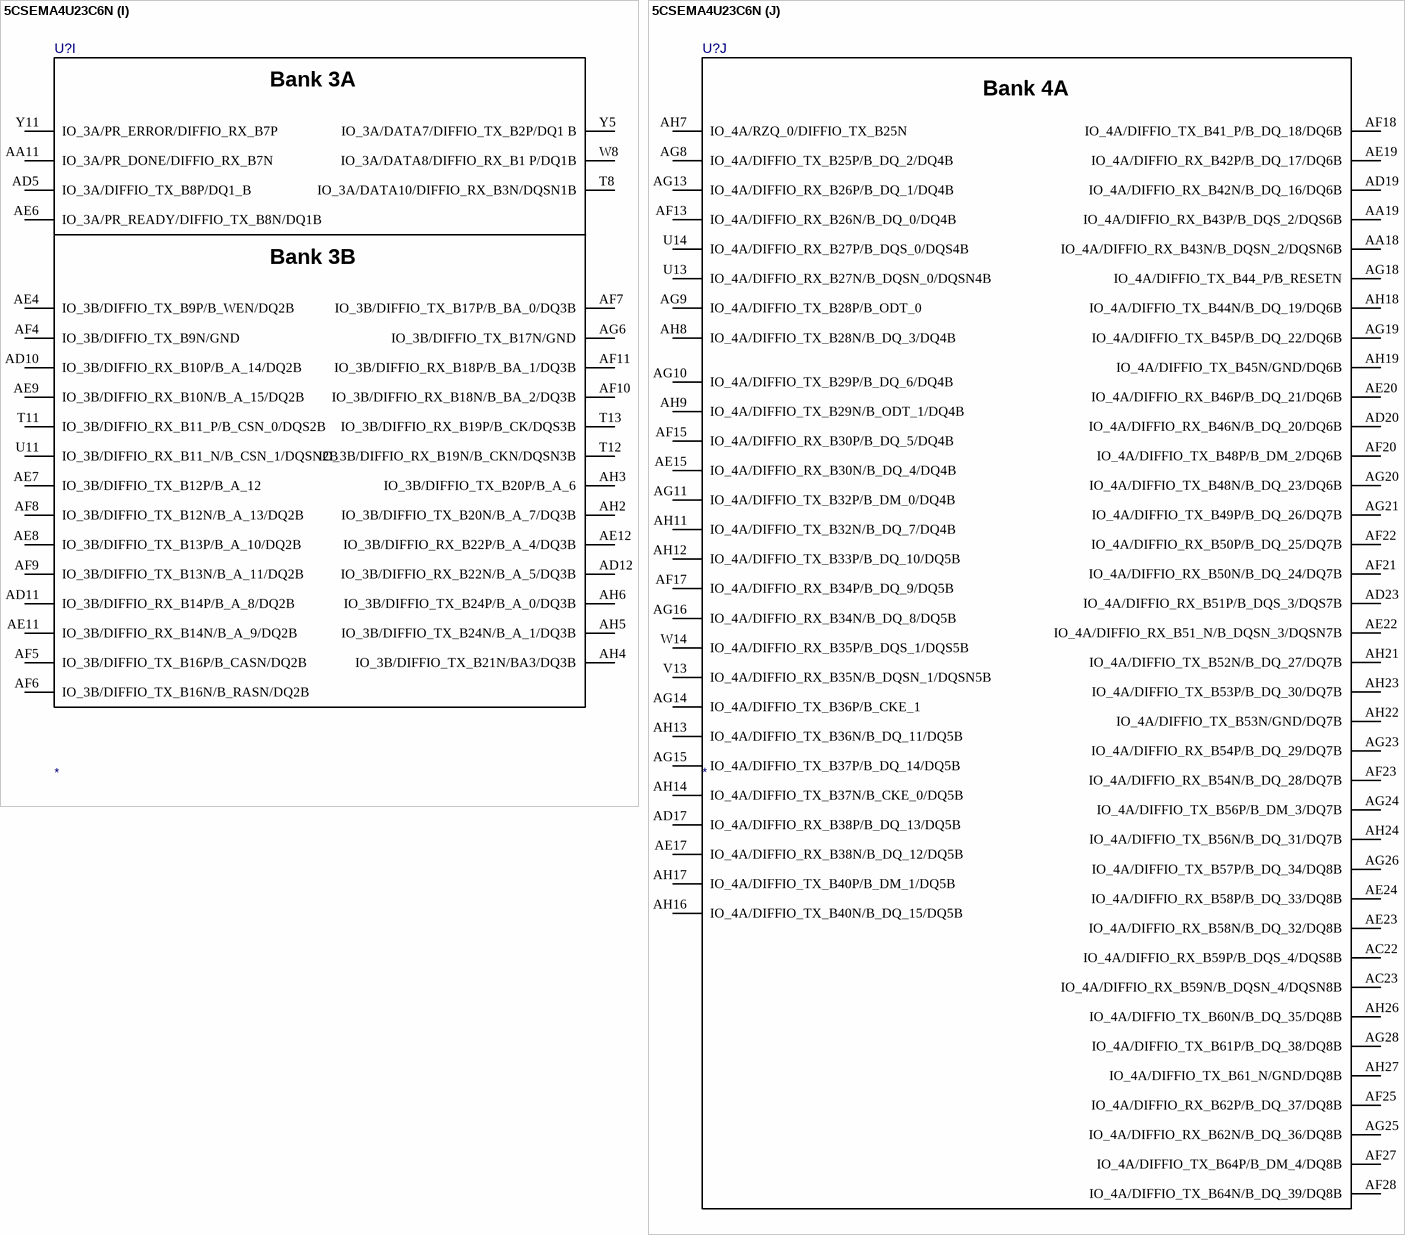
[diagram p11: symbol 5CSEMA4U23C6N]

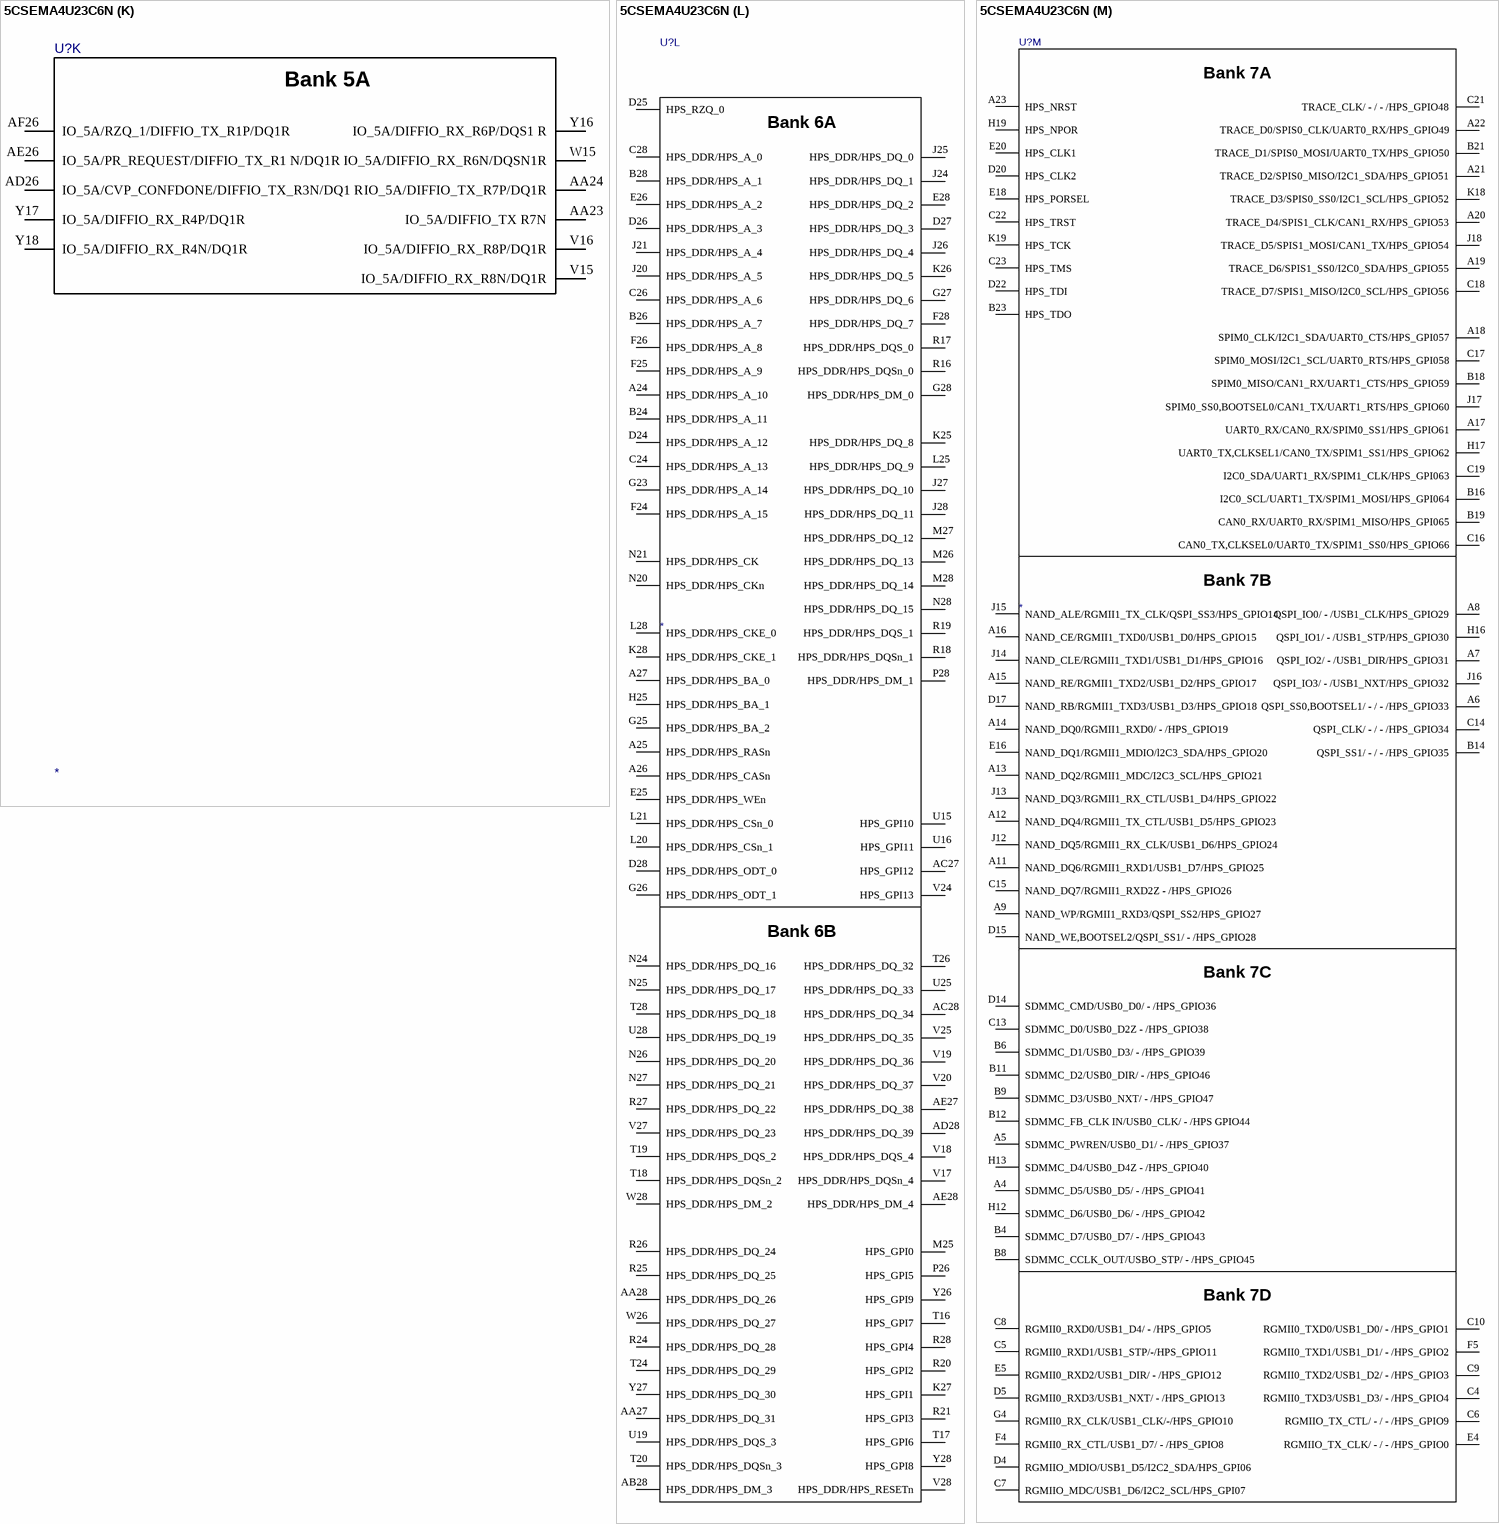
[diagram p12: symbol 5CSEMA4U23C6N]

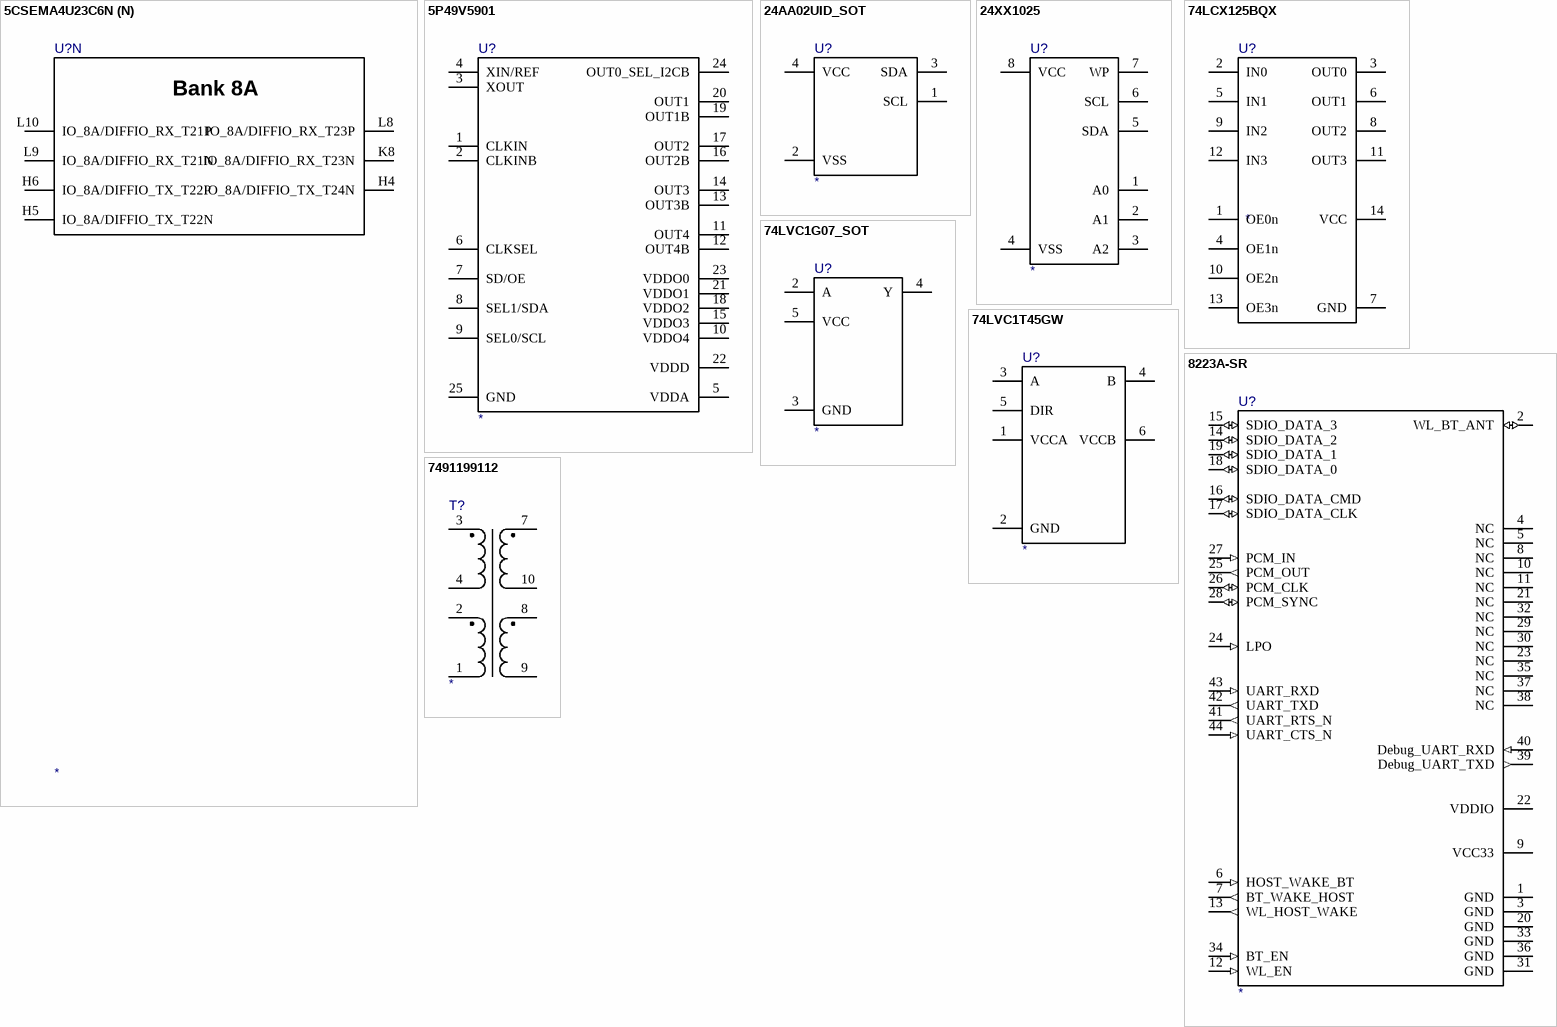
[diagram p13: symbols 5CSEMA4U23C6N to 7491199112]

## 5CSEMA4U23C6N
designator U?
part A pins: AA4 IO_3A/DATA11/DIFFIO_TX_B4P, AA6 NCSO/DATA4, AA8 DCLK, AA20 IO_5A/INIT_DONE/DIFFIO_RX_R2P, AB4 IO_3A/DATA9/DIFFIO_TX_B4N/DQ1 B, AB5 TCK, AB6 AS_DATA3/DATA3, AB23 IO_5A/DEV_CLRn/DIFFIO_TX_R5N/DQ1R, AC4 IO_3A/DATA15/DIFFIO_TX_B6P/DQ1B, AC5 AS_DATA2/DATA2, AC6 AS_DATA1/DATA1, AC7 TMS, AC24 IO_5A/DEV_OE/DIFFIO_TX_R5P, AD4 IO_3A/DATA13/DIFFIO_TX_B6N/DQ1B, AD7 AS_DATA0,ASD0/DATA0, AE25 IO_5A/nCEO/DIFFIO_TX_R3P/DQ1 R, E6 nCE, F7 nCONFIG, G6 MSEL2, H8 nSTATUS, H9 MSEL1, J8 CONF_DONE, J10 MSEL0, K9 MSEL4, K10 MSEL3, U9 IO_3A/DATA12/DIFFIO_RX_B3P/DQS1 B, U10 IO_3A/CLKUSR/DIFFIO_RX_B5P/DQ1B, V10 IO_3A/DATA14/DIFFIO_RX_B5N/DQ1B, W10 TDI, Y4 IO_3A/DATA5/DIFFIO_TX_B2N, Y8 IO_3A/DATA6/DIFFIO_RX_B1 N/DQ1B, Y9 TDO, Y19 IO_5A/CRC_ERROR/DIFFIO_RX_R2N
part B pins: AA13 IO_4A/CLK2N/DIFFIO_RX_B31N, AA15 IO_4A/CLK3N/DIFFIO_RX_B39N, AG5 IO_3B/FPLL_BL_CLKOUT0,FPLL_BL_CLKOUTP.FPLL_BL_FB/DIFFIO_TX_B21P/B_A_2/DQ3B, C12 IO_8A/CLK7N/DIFFIO_RX_T1N, D8 IO_8A/FPLL_TL_CLKOUT1,FPLL_TL_CLKOUTN/DIFFIO TX_T4N, D11 IO_8A/CLK6N,FPLL_TL_FBN/DIFFIO_RX_T9N, D12 IO_8A/CLK7P/DIFFIO_RX_T1P, E8 IO_8A/FPLL_TL_CLKOUT0,FPLL_TL_CLKOUTP,FPLL_TL_FB/DIFFIO_TX_T4P, E11 IO_8A/CLK6P,FPLL_TL_FBP/DIFFIO_RX_T9P, V11 IO_3B/CLK0P,FPLL_BL_FBP/DIFFIO_RX_B15P, V12 IO_3B/CLK1P/DIFFIO_RX_B23P, W11 IO_3B/CLK0N,FPLL_BL_FBN/DIFFIO_RX_B15N, W12 IO_3B/CLK1N/DIFFIO_RX_B23N, Y13 IO_4A/CLK2P/DIFFIO_RX_B31P, Y15 IO_4A/CLK3P/DIFFIO_RX_B39P
part C pins: AD27 VCCIO6B_HPS, B10 VCCIO7C_HPS, B13 VCCIO7B_HPS, C20 VCCIO7A_HPS, C25 VCCIO6A_HPS, C27 VCCIO6A_HPS, D6 VCCIO7D_HPS, D18 VCCIO7A_HPS, D19 VREFB7A7B7C7DN0_HPS, E13 VCCPD7D_HPS, E14 VCCPD7C_HPS, E17 VCCPD7B_HPS, E21 VCCPD7A_HPS, F22 VCCRSTCLK_HPS, F27 VCCIO6A_HPS, G5 VCCIO7D_HPS, G24 VCCIO6A_HPS, H14 VCCIO7B_HPS, H21 VCCIO6A_HPS, H23 VCCPLL_HPS, H26 VCCIO6A_HPS, H28 VREFB6AN0_HPS, J19 VCCRSTCLK_HPS, K17 VCC_HPS, K21 VCCPD6A6B_HPS, K24 VCCPD6A6B_HPS, L16 VCC_HPS, L18 VCC_HPS, L26 VCCIO6A_HPS, M17 VCC_HPS, M18 VCC_HPS, M19 VCC_HPS, M21 VCCIO6A_HPS, M24 VCCPD6A6B_HPS, N16 VCC_HPS, N18 VCC_HPS, P17 VCC_HPS, P19 VCC_HPS, P21 VCCPD6A6B_HPS, P24 VCCPD6A6B_HPS, P27 VCCIO6B_HPS, T21 VCCIO6B_HPS, T25 VCCIO6B_HPS, T27 VREFB6BN0_HPS, U18 VCCIO6B_HPS, U21 VCC_HPS, W27 VCCIO6B_HPS
part D pins: AA10 VCCPD3A, AA14 VCCPD3B4A, AA21 VCCA_FPLL, AC8 VCC_AUX, AC21 VCC_AUX, AD9 VCCPD3B4A, AD13 VCCPD3B4A, AD15 VCC_AUX, AD16 VCCPD3B4A, AD18 VCCPD3B4A, AD21 VCCPD3B4A, AD24 VCCPGM, D7 VCCBAT, E10 VCCPD8A, E15 VCC_AUX, F8 VCC_AUX, F21 VCC_AUX_SHARED, H10 VCCPGM, J4 VCCA_FPLL, J11 VCC, K5 VCCA_FPLL, K13 VCC, K15 VCC, L4 VCC, L11 VCC, L12 VCC, L14 VCC, M4 VCCA_FPLL, M5 VCC, M9 VCC, M12 VCC, M13 VCC, M15 VCC, N5 VCC, N9 VCC, N10 VCC, N11 VCC, N12 VCC, N14 VCC, P4 VCCA_FPLL, P11 VCC, P13 VCC, P14 VCC, P15 VCC, R4 VCCA_FPLL, R5 VCC, R9 VCC, R10 VCC, R12 VCC, R14 VCC, T4 VCC, T5 VCC, T9 VCC, T15 VCC, U4 VCCA_FPLL, U26 VCC, W5 VCCA_FPLL, Y10 VCCPGM, Y21 VCCPD5A
part E pins: AA5 VCCIO3A, AA12 VCCIO3B, AA16 VCCIO4A, AC25 VCCIO5A, AC26 VREFB5AN0, AE5 VREFB3AN0, AE10 VCCIO3B, AE13 VCCIO3B, AE21 VCCIO4A, AF12 VREFB3BN0, AF14 VCCIO4A, AF16 VREFB4AN0, AF19 VCCIO4A, AG4 VCCIO3B, AG12 VCCIO4A, AG22 VCCIO4A, AH15 VCCIO4A, AH25 VCCIO4A, D9 VREFB8AN0, E7 VCCIO8A, W9 VCCIO3A, W13 VCCIO4A, W17 VCCIO5A
part F pins: AA25 GND, AA26 GND, AB26 GND, AE2 GND, AE18 GND, AG7 GND, AH10 GND, AH20 GND, B3 GND, B15 GND, B17 GND, B20 GND, B22 GND, B25 GND, B27 GND, K3 GND, K4 GND, K14 GND, K16 GND, K20 GND, L1 GND, L2 GND, L3 GND, L5 GND, L13 GND, L15 GND, L17 GND, L19 GND, L24 GND, L27 GND, M3 GND, M8 GND, M10 GND, M11 GND, M14 GND, M16 GND, M20 GND, N1 GND, N2 GND, N3 GND, N4 GND, N13 GND, N15 GND, N17 GND, N19 GND, P3 GND, P5 GND, P9 GND, P10 GND, P12 GND, P16 GND, P18 GND, P20 GND, P25 GND, R1 GND, R2 GND, R3 GND, R8 GND, R11 GND, R13 GND, R15 GND, T3 GND, T10 GND, T14 GND, U1 GND, U2 GND, U3 GND, U5 GND, U12 GND, U17 GND, U20 GND, U24 GND, U27 GND, V3 GND, V8 GND, V9 GND, V14 GND, V21 GND, V26 GND, W1 GND, W2 GND, W3 GND, W4 GND, W16 GND, W18 GND, W20 GND, W21 GND, W24 GND, W25 GND, Y12 GND, Y14 GND, Y24 GND
part G pins: A3 GND, A10 GND, AA1 GND, AA2 GND, AA3 GND, AA9 GND, AA17 GND, AB1 GND, AB2 GND, AB3 GND, AB24 GND, AB25 GND, AB27 GND, AC1 GND, AC2 GND, AC3 GND, AD3 GND, AD6 GND, AD8 GND, AD14 GND, AD22 GND, AD25 GND, AE1 GND, AE3 GND, AE16 GND, AF1 GND, AF2 GND, AF3 GND, AF24 GND, AG1 GND, AG2 GND, AG3 GND, AG17 GND, AG27 GND, B5 GND, B7 GND, C1 GND, C2 GND, C3 GND, C11 GND, D3 GND, D10 GND, D13 GND, D16 GND, D21 GND, E1 GND, E2 GND, E3 GND, E9 GND, E19 GND, E22 GND, E23 GND, E24 GND, E27 GND, F1 GND, F2 GND, F3 GND, F6 GND, F23 GND, G1 GND, G2 GND, G3 GND, H3 GND, H11 GND, H15 GND, H18 GND, H20 GND, H24 GND, H27 GND, J1 GND, J2 GND, J3 GND, J5 GND, J9 GND, K1 GND, K2 GND, K11 GND, K12 GND, N8 GND, P1 GND, P2 GND, P8 GND, V1 GND, V2 GND, V4 GND, V5 GND, W19 GND, Y3 GND, Y20 GND, Y25 GND
part H pins: B1 RREF_TL
part I pins: AA11 IO_3A/PR_DONE/DIFFIO_RX_B7N, AD5 IO_3A/DIFFIO_TX_B8P/DQ1_B, AD10 IO_3B/DIFFIO_RX_B10P/B_A_14/DQ2B, AD11 IO_3B/DIFFIO_RX_B14P/B_A_8/DQ2B, AD12 IO_3B/DIFFIO_RX_B22N/B_A_5/DQ3B, AE4 IO_3B/DIFFIO_TX_B9P/B_WEN/DQ2B, AE6 IO_3A/PR_READY/DIFFIO_TX_B8N/DQ1B, AE7 IO_3B/DIFFIO_TX_B12P/B_A_12, AE8 IO_3B/DIFFIO_TX_B13P/B_A_10/DQ2B, AE9 IO_3B/DIFFIO_RX_B10N/B_A_15/DQ2B, AE11 IO_3B/DIFFIO_RX_B14N/B_A_9/DQ2B, AE12 IO_3B/DIFFIO_RX_B22P/B_A_4/DQ3B, AF4 IO_3B/DIFFIO_TX_B9N/GND, AF5 IO_3B/DIFFIO_TX_B16P/B_CASN/DQ2B, AF6 IO_3B/DIFFIO_TX_B16N/B_RASN/DQ2B, AF7 IO_3B/DIFFIO_TX_B17P/B_BA_0/DQ3B, AF8 IO_3B/DIFFIO_TX_B12N/B_A_13/DQ2B, AF9 IO_3B/DIFFIO_TX_B13N/B_A_11/DQ2B, AF10 IO_3B/DIFFIO_RX_B18N/B_BA_2/DQ3B, AF11 IO_3B/DIFFIO_RX_B18P/B_BA_1/DQ3B, AG6 IO_3B/DIFFIO_TX_B17N/GND, AH2 IO_3B/DIFFIO_TX_B20N/B_A_7/DQ3B, AH3 IO_3B/DIFFIO_TX_B20P/B_A_6, AH4 IO_3B/DIFFIO_TX_B21N/BA3/DQ3B, AH5 IO_3B/DIFFIO_TX_B24N/B_A_1/DQ3B, AH6 IO_3B/DIFFIO_TX_B24P/B_A_0/DQ3B, T8 IO_3A/DATA10/DIFFIO_RX_B3N/DQSN1B, T11 IO_3B/DIFFIO_RX_B11_P/B_CSN_0/DQS2B, T12 IO_3B/DIFFIO_RX_B19N/B_CKN/DQSN3B, T13 IO_3B/DIFFIO_RX_B19P/B_CK/DQS3B, U11 IO_3B/DIFFIO_RX_B11_N/B_CSN_1/DQSN2B, W8 IO_3A/DATA8/DIFFIO_RX_B1 P/DQ1B, Y5 IO_3A/DATA7/DIFFIO_TX_B2P/DQ1 B, Y11 IO_3A/PR_ERROR/DIFFIO_RX_B7P
part J pins: AA18 IO_4A/DIFFIO_RX_B43N/B_DQSN_2/DQSN6B, AA19 IO_4A/DIFFIO_RX_B43P/B_DQS_2/DQS6B, AC22 IO_4A/DIFFIO_RX_B59P/B_DQS_4/DQS8B, AC23 IO_4A/DIFFIO_RX_B59N/B_DQSN_4/DQSN8B, AD17 IO_4A/DIFFIO_RX_B38P/B_DQ_13/DQ5B, AD19 IO_4A/DIFFIO_RX_B42N/B_DQ_16/DQ6B, AD20 IO_4A/DIFFIO_RX_B46N/B_DQ_20/DQ6B, AD23 IO_4A/DIFFIO_RX_B51P/B_DQS_3/DQS7B, AE15 IO_4A/DIFFIO_RX_B30N/B_DQ_4/DQ4B, AE17 IO_4A/DIFFIO_RX_B38N/B_DQ_12/DQ5B, AE19 IO_4A/DIFFIO_RX_B42P/B_DQ_17/DQ6B, AE20 IO_4A/DIFFIO_RX_B46P/B_DQ_21/DQ6B, AE22 IO_4A/DIFFIO_RX_B51_N/B_DQSN_3/DQSN7B, AE23 IO_4A/DIFFIO_RX_B58N/B_DQ_32/DQ8B, AE24 IO_4A/DIFFIO_RX_B58P/B_DQ_33/DQ8B, AF13 IO_4A/DIFFIO_RX_B26N/B_DQ_0/DQ4B, AF15 IO_4A/DIFFIO_RX_B30P/B_DQ_5/DQ4B, AF17 IO_4A/DIFFIO_RX_B34P/B_DQ_9/DQ5B, AF18 IO_4A/DIFFIO_TX_B41_P/B_DQ_18/DQ6B, AF20 IO_4A/DIFFIO_TX_B48P/B_DM_2/DQ6B, AF21 IO_4A/DIFFIO_RX_B50N/B_DQ_24/DQ7B, AF22 IO_4A/DIFFIO_RX_B50P/B_DQ_25/DQ7B, AF23 IO_4A/DIFFIO_RX_B54N/B_DQ_28/DQ7B, AF25 IO_4A/DIFFIO_RX_B62P/B_DQ_37/DQ8B, AF27 IO_4A/DIFFIO_TX_B64P/B_DM_4/DQ8B, AF28 IO_4A/DIFFIO_TX_B64N/B_DQ_39/DQ8B, AG8 IO_4A/DIFFIO_TX_B25P/B_DQ_2/DQ4B, AG9 IO_4A/DIFFIO_TX_B28P/B_ODT_0, AG10 IO_4A/DIFFIO_TX_B29P/B_DQ_6/DQ4B, AG11 IO_4A/DIFFIO_TX_B32P/B_DM_0/DQ4B, AG13 IO_4A/DIFFIO_RX_B26P/B_DQ_1/DQ4B, AG14 IO_4A/DIFFIO_TX_B36P/B_CKE_1, AG15 IO_4A/DIFFIO_TX_B37P/B_DQ_14/DQ5B, AG16 IO_4A/DIFFIO_RX_B34N/B_DQ_8/DQ5B, AG18 IO_4A/DIFFIO_TX_B44_P/B_RESETN, AG19 IO_4A/DIFFIO_TX_B45P/B_DQ_22/DQ6B, AG20 IO_4A/DIFFIO_TX_B48N/B_DQ_23/DQ6B, AG21 IO_4A/DIFFIO_TX_B49P/B_DQ_26/DQ7B, AG23 IO_4A/DIFFIO_RX_B54P/B_DQ_29/DQ7B, AG24 IO_4A/DIFFIO_TX_B56P/B_DM_3/DQ7B, AG25 IO_4A/DIFFIO_RX_B62N/B_DQ_36/DQ8B, AG26 IO_4A/DIFFIO_TX_B57P/B_DQ_34/DQ8B, AG28 IO_4A/DIFFIO_TX_B61P/B_DQ_38/DQ8B, AH7 IO_4A/RZQ_0/DIFFIO_TX_B25N, AH8 IO_4A/DIFFIO_TX_B28N/B_DQ_3/DQ4B, AH9 IO_4A/DIFFIO_TX_B29N/B_ODT_1/DQ4B, AH11 IO_4A/DIFFIO_TX_B32N/B_DQ_7/DQ4B, AH12 IO_4A/DIFFIO_TX_B33P/B_DQ_10/DQ5B, AH13 IO_4A/DIFFIO_TX_B36N/B_DQ_11/DQ5B, AH14 IO_4A/DIFFIO_TX_B37N/B_CKE_0/DQ5B, AH16 IO_4A/DIFFIO_TX_B40N/B_DQ_15/DQ5B, AH17 IO_4A/DIFFIO_TX_B40P/B_DM_1/DQ5B, AH18 IO_4A/DIFFIO_TX_B44N/B_DQ_19/DQ6B, AH19 IO_4A/DIFFIO_TX_B45N/GND/DQ6B, AH21 IO_4A/DIFFIO_TX_B52N/B_DQ_27/DQ7B, AH22 IO_4A/DIFFIO_TX_B53N/GND/DQ7B, AH23 IO_4A/DIFFIO_TX_B53P/B_DQ_30/DQ7B, AH24 IO_4A/DIFFIO_TX_B56N/B_DQ_31/DQ7B, AH26 IO_4A/DIFFIO_TX_B60N/B_DQ_35/DQ8B, AH27 IO_4A/DIFFIO_TX_B61_N/GND/DQ8B, U13 IO_4A/DIFFIO_RX_B27N/B_DQSN_0/DQSN4B, U14 IO_4A/DIFFIO_RX_B27P/B_DQS_0/DQS4B, V13 IO_4A/DIFFIO_RX_B35N/B_DQSN_1/DQSN5B, W14 IO_4A/DIFFIO_RX_B35P/B_DQS_1/DQS5B
part K pins: AA23 IO_5A/DIFFIO_TX R7N, AA24 IO_5A/DIFFIO_TX_R7P/DQ1R, AD26 IO_5A/CVP_CONFDONE/DIFFIO_TX_R3N/DQ1 R, AE26 IO_5A/PR_REQUEST/DIFFIO_TX_R1 N/DQ1R, AF26 IO_5A/RZQ_1/DIFFIO_TX_R1P/DQ1R, V15 IO_5A/DIFFIO_RX_R8N/DQ1R, V16 IO_5A/DIFFIO_RX_R8P/DQ1R, W15 IO_5A/DIFFIO_RX_R6N/DQSN1R, Y16 IO_5A/DIFFIO_RX_R6P/DQS1 R, Y17 IO_5A/DIFFIO_RX_R4P/DQ1R, Y18 IO_5A/DIFFIO_RX_R4N/DQ1R
part L pins: A24 HPS_DDR/HPS_A_10, A25 HPS_DDR/HPS_RASn, A26 HPS_DDR/HPS_CASn, A27 HPS_DDR/HPS_BA_0, AA27 HPS_DDR/HPS_DQ_31, AA28 HPS_DDR/HPS_DQ_26, AB28 HPS_DDR/HPS_DM_3, AC27 HPS_GPI12, AC28 HPS_DDR/HPS_DQ_34, AD28 HPS_DDR/HPS_DQ_39, AE27 HPS_DDR/HPS_DQ_38, AE28 HPS_DDR/HPS_DM_4, B24 HPS_DDR/HPS_A_11, B26 HPS_DDR/HPS_A_7, B28 HPS_DDR/HPS_A_1, C24 HPS_DDR/HPS_A_13, C26 HPS_DDR/HPS_A_6, C28 HPS_DDR/HPS_A_0, D24 HPS_DDR/HPS_A_12, D25 HPS_RZQ_0, D26 HPS_DDR/HPS_A_3, D27 HPS_DDR/HPS_DQ_3, D28 HPS_DDR/HPS_ODT_0, E25 HPS_DDR/HPS_WEn, E26 HPS_DDR/HPS_A_2, E28 HPS_DDR/HPS_DQ_2, F24 HPS_DDR/HPS_A_15, F25 HPS_DDR/HPS_A_9, F26 HPS_DDR/HPS_A_8, F28 HPS_DDR/HPS_DQ_7, G23 HPS_DDR/HPS_A_14, G25 HPS_DDR/HPS_BA_2, G26 HPS_DDR/HPS_ODT_1, G27 HPS_DDR/HPS_DQ_6, G28 HPS_DDR/HPS_DM_0, H25 HPS_DDR/HPS_BA_1, J20 HPS_DDR/HPS_A_5, J21 HPS_DDR/HPS_A_4, J24 HPS_DDR/HPS_DQ_1, J25 HPS_DDR/HPS_DQ_0, J26 HPS_DDR/HPS_DQ_4, J27 HPS_DDR/HPS_DQ_10, J28 HPS_DDR/HPS_DQ_11, K25 HPS_DDR/HPS_DQ_8, K26 HPS_DDR/HPS_DQ_5, K27 HPS_GPI1, K28 HPS_DDR/HPS_CKE_1, L20 HPS_DDR/HPS_CSn_1, L21 HPS_DDR/HPS_CSn_0, L25 HPS_DDR/HPS_DQ_9, L28 HPS_DDR/HPS_CKE_0, M25 HPS_GPI0, M26 HPS_DDR/HPS_DQ_13, M27 HPS_DDR/HPS_DQ_12, M28 HPS_DDR/HPS_DQ_14, N20 HPS_DDR/HPS_CKn, N21 HPS_DDR/HPS_CK, N24 HPS_DDR/HPS_DQ_16, N25 HPS_DDR/HPS_DQ_17, N26 HPS_DDR/HPS_DQ_20, N27 HPS_DDR/HPS_DQ_21, N28 HPS_DDR/HPS_DQ_15, P26 HPS_GPI5, P28 HPS_DDR/HPS_DM_1, R16 HPS_DDR/HPS_DQSn_0, R17 HPS_DDR/HPS_DQS_0, R18 HPS_DDR/HPS_DQSn_1, R19 HPS_DDR/HPS_DQS_1, R20 HPS_GPI2, R21 HPS_GPI3, R24 HPS_DDR/HPS_DQ_28, R25 HPS_DDR/HPS_DQ_25, R26 HPS_DDR/HPS_DQ_24, R27 HPS_DDR/HPS_DQ_22, R28 HPS_GPI4, T16 HPS_GPI7, T17 HPS_GPI6, T18 HPS_DDR/HPS_DQSn_2, T19 HPS_DDR/HPS_DQS_2, T20 HPS_DDR/HPS_DQSn_3, T24 HPS_DDR/HPS_DQ_29, T26 HPS_DDR/HPS_DQ_32, T28 HPS_DDR/HPS_DQ_18, U15 HPS_GPI10, U16 HPS_GPI11, U19 HPS_DDR/HPS_DQS_3, U25 HPS_DDR/HPS_DQ_33, U28 HPS_DDR/HPS_DQ_19, V17 HPS_DDR/HPS_DQSn_4, V18 HPS_DDR/HPS_DQS_4, V19 HPS_DDR/HPS_DQ_36, V20 HPS_DDR/HPS_DQ_37, V24 HPS_GPI13, V25 HPS_DDR/HPS_DQ_35, V27 HPS_DDR/HPS_DQ_23, V28 HPS_DDR/HPS_RESETn, W26 HPS_DDR/HPS_DQ_27, W28 HPS_DDR/HPS_DM_2, Y26 HPS_GPI9, Y27 HPS_DDR/HPS_DQ_30, Y28 HPS_GPI8
part M pins: A4 SDMMC_D5/USB0_D5/ - /HPS_GPIO41, A5 SDMMC_PWREN/USB0_D1/ - /HPS_GPIO37, A6 QSPI_SS0,BOOTSEL1/ - / - /HPS_GPIO33, A7 QSPI_IO2/ - /USB1_DIR/HPS_GPIO31, A8 QSPI_IO0/ - /USB1_CLK/HPS_GPIO29, A9 NAND_WP/RGMII1_RXD3/QSPI_SS2/HPS_GPIO27, A11 NAND_DQ6/RGMII1_RXD1/USB1_D7/HPS_GPIO25, A12 NAND_DQ4/RGMII1_TX_CTL/USB1_D5/HPS_GPIO23, A13 NAND_DQ2/RGMII1_MDC/I2C3_SCL/HPS_GPIO21, A14 NAND_DQ0/RGMII1_RXD0/ - /HPS_GPIO19, A15 NAND_RE/RGMII1_TXD2/USB1_D2/HPS_GPIO17, A16 NAND_CE/RGMII1_TXD0/USB1_D0/HPS_GPIO15, A17 UART0_RX/CAN0_RX/SPIM0_SS1/HPS_GPIO61, A18 SPIM0_CLK/I2C1_SDA/UART0_CTS/HPS_GPI057, A19 TRACE_D6/SPIS1_SS0/I2C0_SDA/HPS_GPIO55, A20 TRACE_D4/SPIS1_CLK/CAN1_RX/HPS_GPIO53, A21 TRACE_D2/SPIS0_MISO/I2C1_SDA/HPS_GPIO51, A22 TRACE_D0/SPIS0_CLK/UART0_RX/HPS_GPIO49, A23 HPS_NRST, B4 SDMMC_D7/USB0_D7/ - /HPS_GPIO43, B6 SDMMC_D1/USB0_D3/ - /HPS_GPIO39, B8 SDMMC_CCLK_OUT/USBO_STP/ - /HPS_GPIO45, B9 SDMMC_D3/USB0_NXT/ - /HPS_GPIO47, B11 SDMMC_D2/USB0_DIR/ - /HPS_GPIO46, B12 SDMMC_FB_CLK IN/USB0_CLK/ - /HPS GPIO44, B14 QSPI_SS1/ - / - /HPS_GPIO35, B16 I2C0_SCL/UART1_TX/SPIM1_MOSI/HPS_GPI064, B18 SPIM0_MISO/CAN1_RX/UART1_CTS/HPS_GPIO59, B19 CAN0_RX/UART0_RX/SPIM1_MISO/HPS_GPI065, B21 TRACE_D1/SPIS0_MOSI/UART0_TX/HPS_GPIO50, B23 HPS_TDO, C4 RGMII0_TXD3/USB1_D3/ - /HPS_GPIO4, C5 RGMII0_RXD1/USB1_STP/-/HPS_GPIO11, C6 RGMIIO_TX_CTL/ - / - /HPS_GPIO9, C7 RGMIIO_MDC/USB1_D6/I2C2_SCL/HPS_GPI07, C8 RGMII0_RXD0/USB1_D4/ - /HPS_GPIO5, C9 RGMII0_TXD2/USB1_D2/ - /HPS_GPIO3, C10 RGMII0_TXD0/USB1_D0/ - /HPS_GPIO1, C13 SDMMC_D0/USB0_D2Z - /HPS_GPIO38, C14 QSPI_CLK/ - / - /HPS_GPIO34, C15 NAND_DQ7/RGMII1_RXD2Z - /HPS_GPIO26, C16 CAN0_TX,CLKSEL0/UART0_TX/SPIM1_SS0/HPS_GPIO66, C17 SPIM0_MOSI/I2C1_SCL/UART0_RTS/HPS_GPI058, C18 TRACE_D7/SPIS1_MISO/I2C0_SCL/HPS_GPIO56, C19 I2C0_SDA/UART1_RX/SPIM1_CLK/HPS_GPI063, C21 TRACE_CLK/ - / - /HPS_GPIO48, C22 HPS_TRST, C23 HPS_TMS, D4 RGMIIO_MDIO/USB1_D5/I2C2_SDA/HPS_GPI06, D5 RGMII0_RXD3/USB1_NXT/ - /HPS_GPIO13, D14 SDMMC_CMD/USB0_D0/ - /HPS_GPIO36, D15 NAND_WE,BOOTSEL2/QSPI_SS1/ - /HPS_GPIO28, D17 NAND_RB/RGMII1_TXD3/USB1_D3/HPS_GPIO18, D20 HPS_CLK2, D22 HPS_TDI, E4 RGMIIO_TX_CLK/ - / - /HPS_GPIO0, E5 RGMII0_RXD2/USB1_DIR/ - /HPS_GPIO12, E16 NAND_DQ1/RGMII1_MDIO/l2C3_SDA/HPS_GPIO20, E18 HPS_PORSEL, E20 HPS_CLK1, F4 RGMII0_RX_CTL/USB1_D7/ - /HPS_GPIO8, F5 RGMII0_TXD1/USB1_D1/ - /HPS_GPIO2, G4 RGMII0_RX_CLK/USB1_CLK/-/HPS_GPIO10, H12 SDMMC_D6/USB0_D6/ - /HPS_GPIO42, H13 SDMMC_D4/USB0_D4Z - /HPS_GPIO40, H16 QSPI_IO1/ - /USB1_STP/HPS_GPIO30, H17 UART0_TX,CLKSEL1/CAN0_TX/SPIM1_SS1/HPS_GPIO62, H19 HPS_NPOR, J12 NAND_DQ5/RGMII1_RX_CLK/USB1_D6/HPS_GPIO24, J13 NAND_DQ3/RGMII1_RX_CTL/USB1_D4/HPS_GPIO22, J14 NAND_CLE/RGMII1_TXD1/USB1_D1/HPS_GPIO16, J15 NAND_ALE/RGMII1_TX_CLK/QSPI_SS3/HPS_GPIO14, J16 QSPI_IO3/ - /USB1_NXT/HPS_GPIO32, J17 SPIM0_SS0,BOOTSEL0/CAN1_TX/UART1_RTS/HPS_GPIO60, J18 TRACE_D5/SPIS1_MOSI/CAN1_TX/HPS_GPIO54, K18 TRACE_D3/SPIS0_SS0/I2C1_SCL/HPS_GPIO52, K19 HPS_TCK
part N pins: H4 IO_8A/DIFFIO_TX_T24N, H5 IO_8A/DIFFIO_TX_T22N, H6 IO_8A/DIFFIO_TX_T22P, K8 IO_8A/DIFFIO_RX_T23N, L8 IO_8A/DIFFIO_RX_T23P, L9 IO_8A/DIFFIO_RX_T21N, L10 IO_8A/DIFFIO_RX_T21P
part A text: Bank 3A; Bank 5A; Bank 9A
part B text: Bank 3B; Bank 4A; Bank 8A
part I text: Bank 3A; Bank 3B
part J text: Bank 4A
part K text: Bank 5A
part L text: Bank 6A; Bank 6B
part M text: Bank 7A; Bank 7B; Bank 7C; Bank 7D
part N text: Bank 8A

## 5P49V5901
designator U?
pins: 1 CLKIN, 2 CLKINB, 3 XOUT, 4 XIN/REF, 5 VDDA, 6 CLKSEL, 7 SD/OE, 8 SEL1/SDA, 9 SEL0/SCL, 10 VDDO4, 11 OUT4, 12 OUT4B, 13 OUT3B, 14 OUT3, 15 VDDO3, 16 OUT2B, 17 OUT2, 18 VDDO2, 19 OUT1B, 20 OUT1, 21 VDDO1, 22 VDDD, 23 VDDO0, 24 OUT0_SEL_I2CB, 25 GND

## 24AA02UID_SOT
designator U?
pins: 1 SCL, 2 VSS, 3 SDA, 4 VCC

## 24XX1025
designator U?
pins: 1 A0, 2 A1, 3 A2, 4 VSS, 5 SDA, 6 SCL, 7 WP, 8 VCC

## 74LCX125BQX
designator U?
pins: 1 OE0n, 2 IN0, 3 OUT0, 4 OE1n, 5 IN1, 6 OUT1, 7 GND, 8 OUT2, 9 IN2, 10 OE2n, 11 OUT3, 12 IN3, 13 OE3n, 14 VCC

## 74LVC1G07_SOT
designator U?
pins: 2 A, 3 GND, 4 Y, 5 VCC

## 74LVC1T45GW
designator U?
pins: 1 VCCA, 2 GND, 3 A, 4 B, 5 DIR, 6 VCCB

## 8223A-SR
designator U?
pins: 1 GND, 2 WL_BT_ANT (io), 3 GND, 4 NC, 5 NC, 6 HOST_WAKE_BT (in), 7 BT_WAKE_HOST (out), 8 NC, 9 VCC33 (power), 10 NC, 11 NC, 12 WL_EN (in), 13 WL_HOST_WAKE (out), 14 SDIO_DATA_2 (io), 15 SDIO_DATA_3 (io), 16 SDIO_DATA_CMD (io), 17 SDIO_DATA_CLK (io), 18 SDIO_DATA_0 (io), 19 SDIO_DATA_1 (io), 20 GND, 21 NC, 22 VDDIO (power), 23 NC, 24 LPO (in), 25 PCM_OUT (out), 26 PCM_CLK (io), 27 PCM_IN (in), 28 PCM_SYNC (io), 29 NC, 30 NC, 31 GND, 32 NC, 33 GND, 34 BT_EN (in), 35 NC, 36 GND, 37 NC, 38 NC, 39 Debug_UART_TXD (out), 40 Debug_UART_RXD (in), 41 UART_RTS_N (out), 42 UART_TXD (out), 43 UART_RXD (in), 44 UART_CTS_N (in)

## 7491199112
designator T?
pins: 1, 2, 3, 4, 7, 8, 9, 10

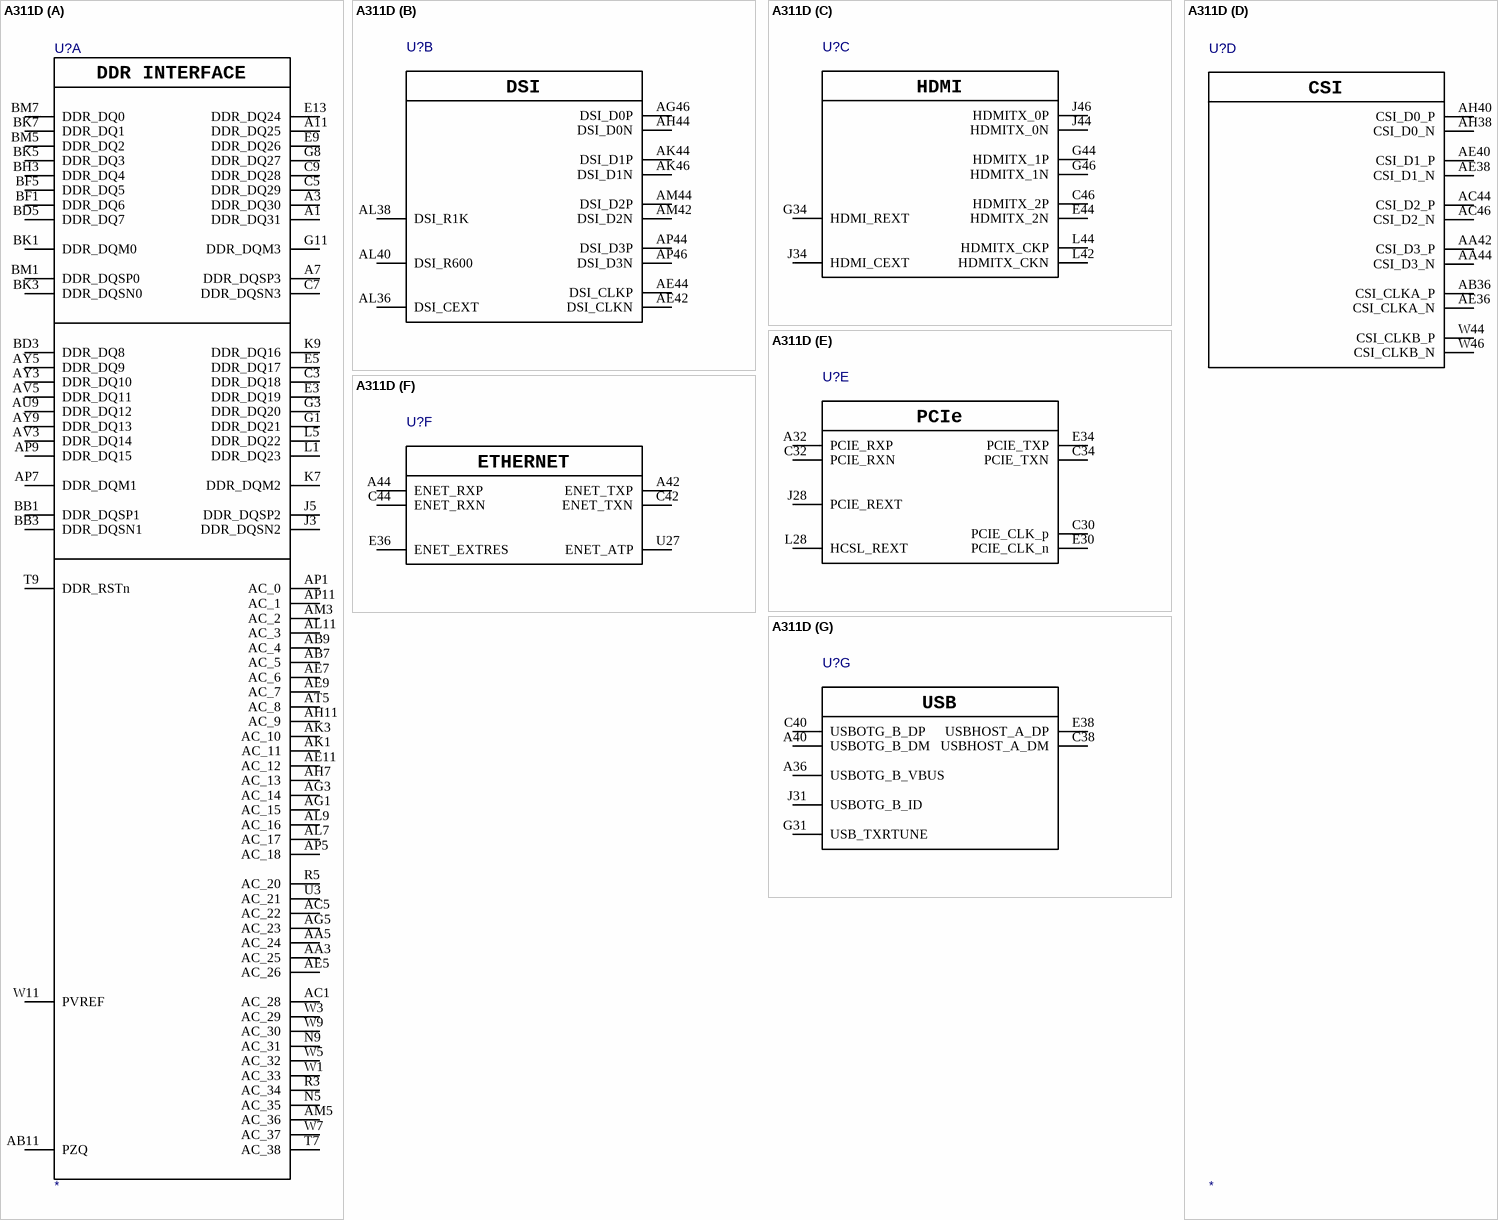
[diagram p14: symbol A311D]

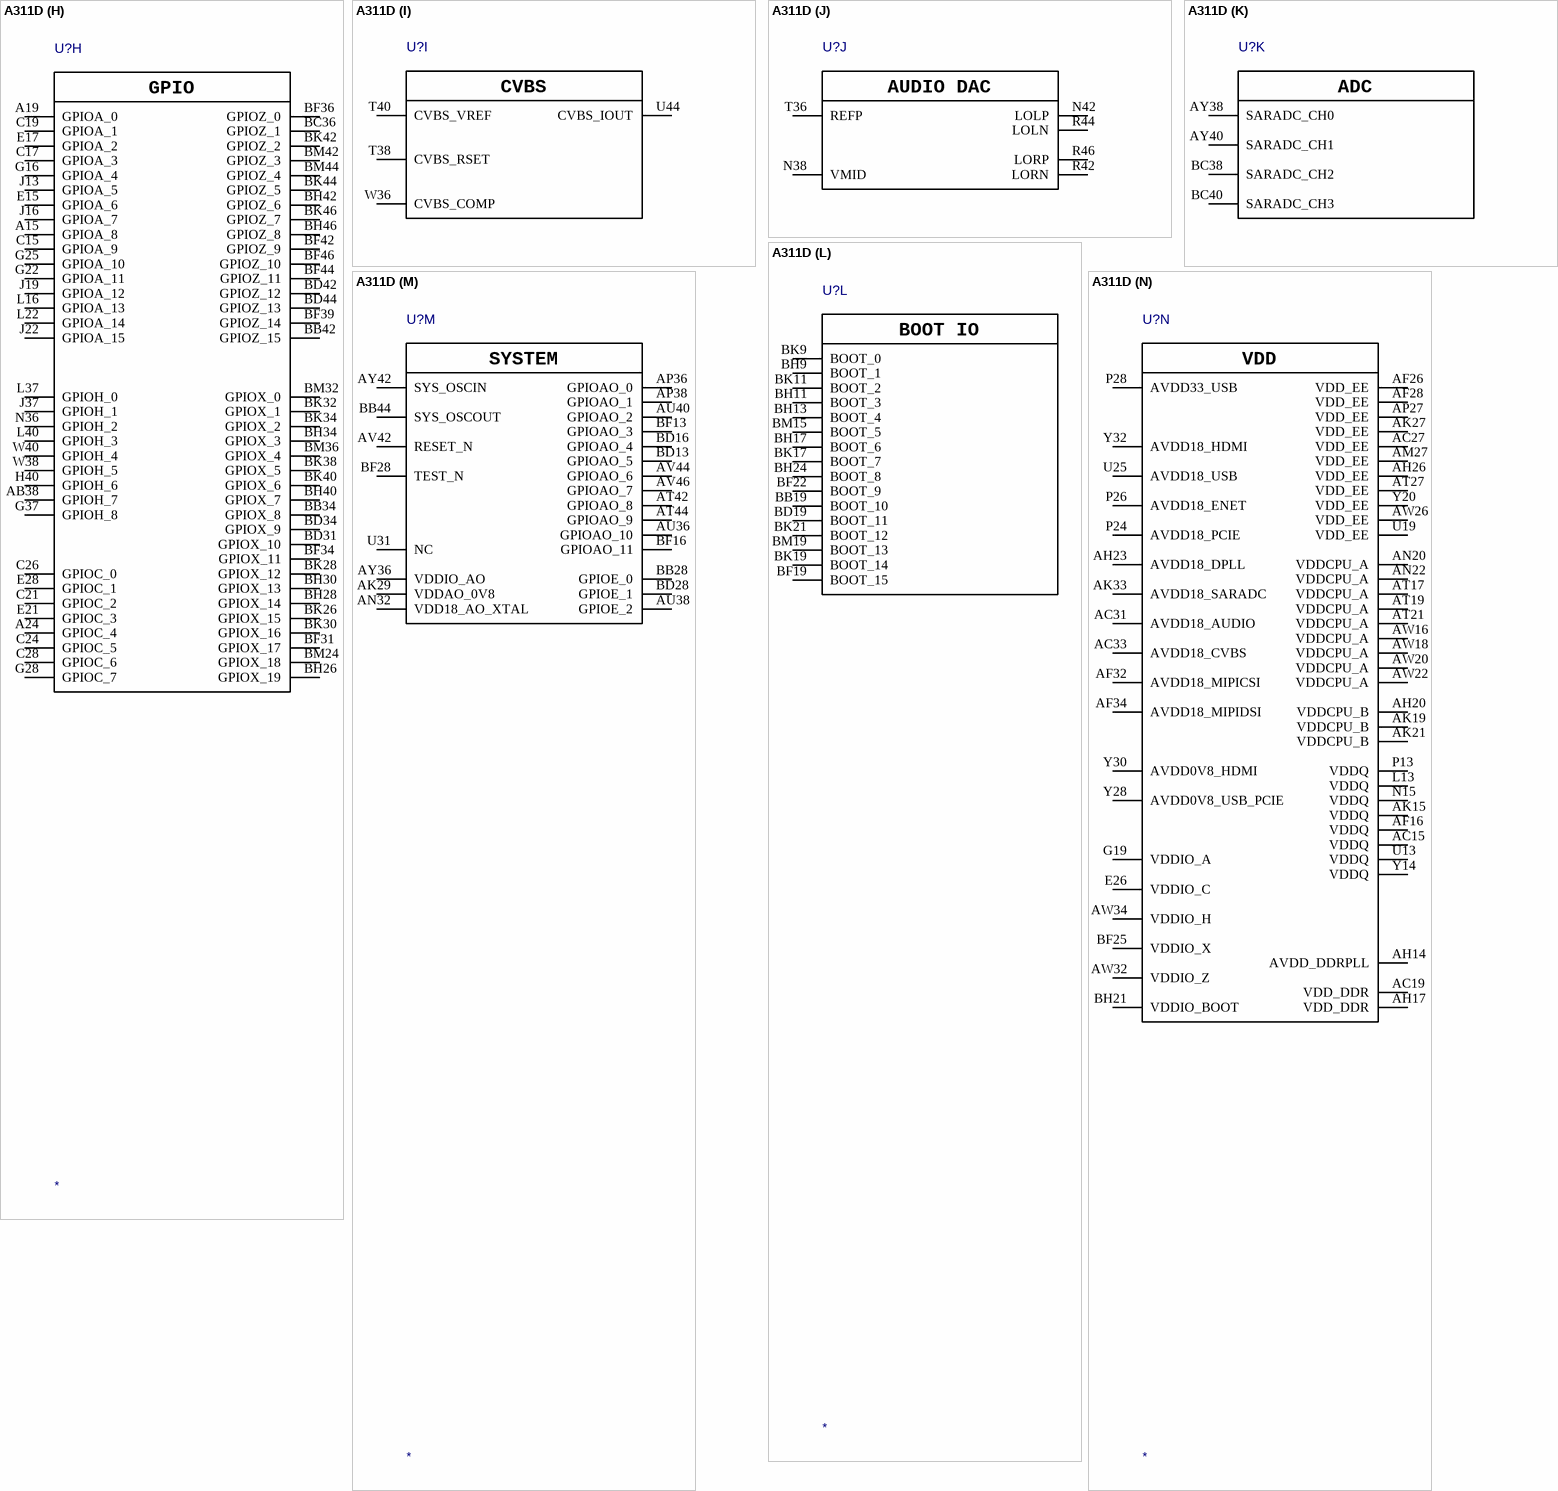
[diagram p15: symbol A311D]

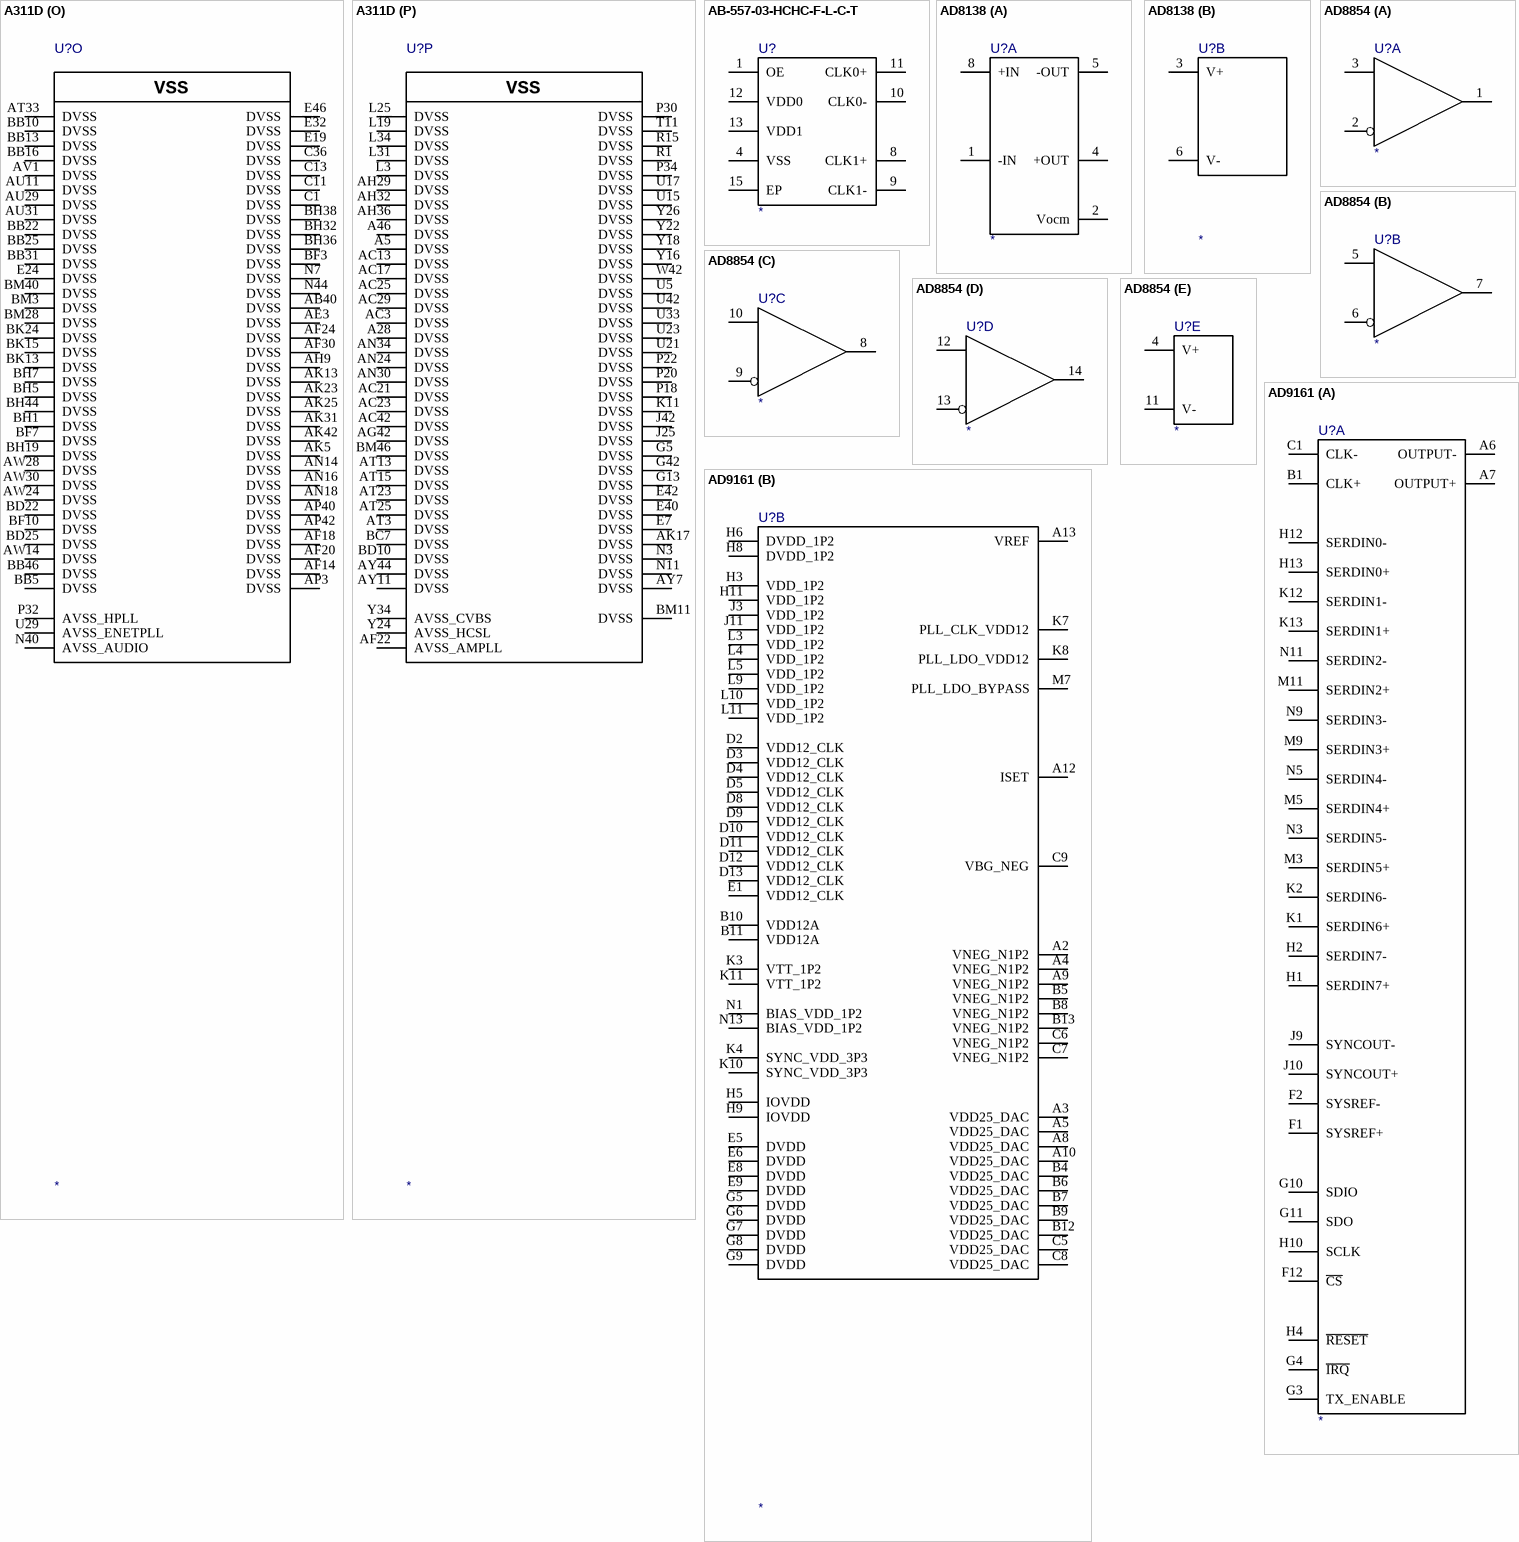
[diagram p16: symbols A311D to AD9161]